# Altium integrated library Xilinx XC4000E.IntLib: 265 symbols (part 16 of 27)
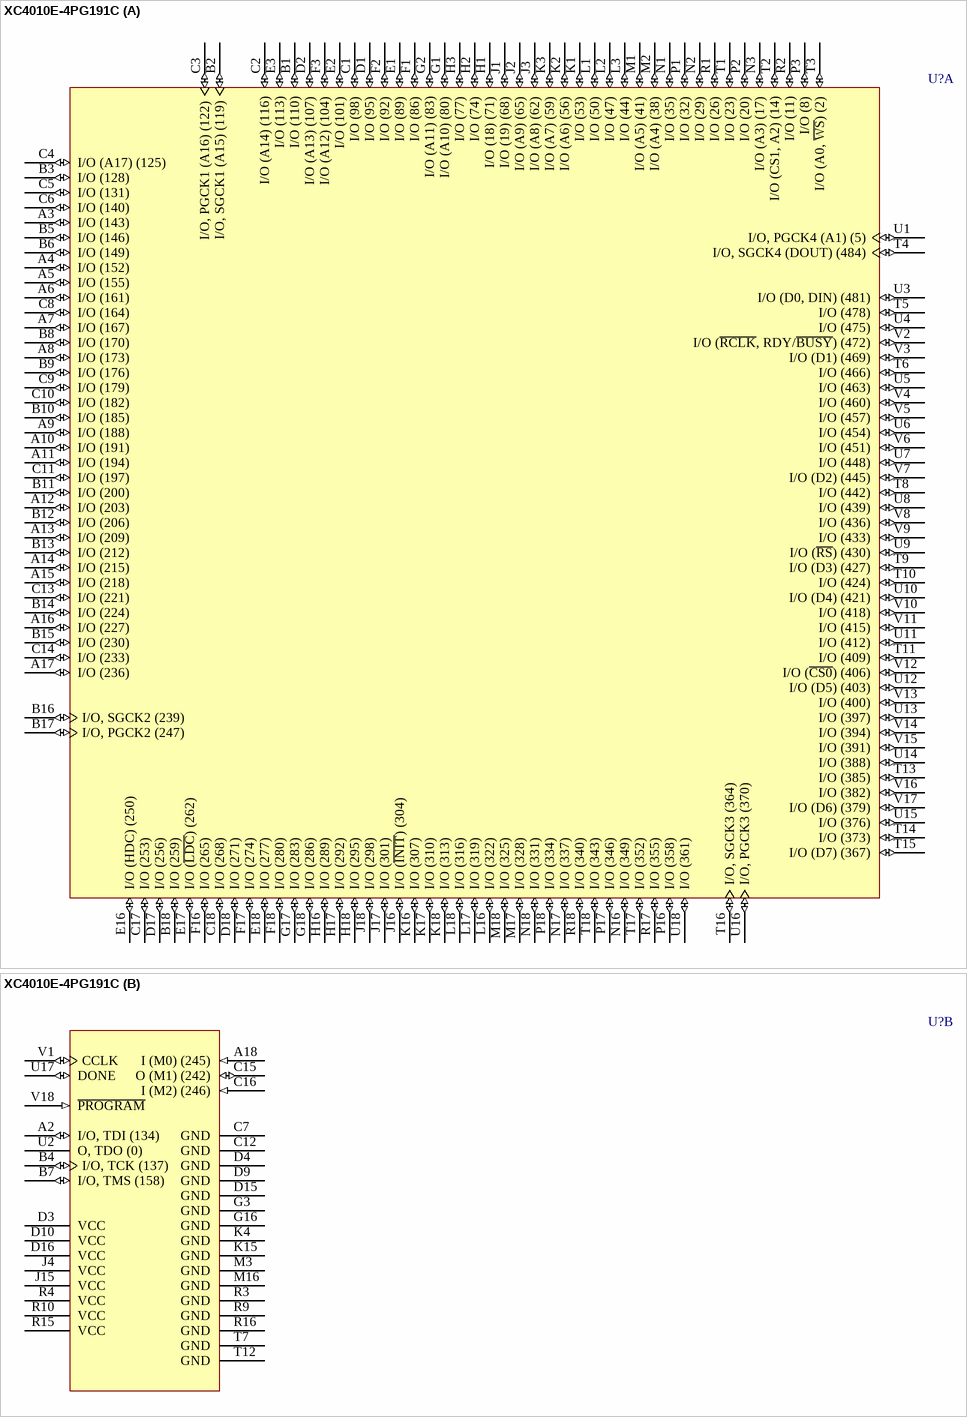
[diagram p287: symbol XC4010E-4PG191C]

## XC4010E-4PG191C
designator U?
XC4000E FPGA, 160 I/Os, 191-Pin PGA, Speed Grade 4, Commercial Grade; Published: 28-Feb-2003; LatestRevisionDate: 04-Mar-2005; LatestRevisionNote: Stylized 3D Model Added.; DatasheetVersion: ver1.6, May-1999; PackageVersion: ver1.1, Apr-2001; PackageReference: PG191; Publisher: Altium Limited; PackageDescription: 191-Pin Ceramic Pin Grid Array (PG191); Supplier 1: Digi-Key; Supplier Part Number 1: XC4010E-4PG191C-ND; ComponentLink1Description: XC4000E Datasheet; ComponentLink1URL: http://www.xilinx.com/support/documentation/data_sheets/4000.pdf; ComponentLink2Description: Discontinuation Notice; ComponentLink2URL: http://www.xilinx.com/support/documentation/customer_notices/pdn2002-03.pdf; ComponentLink3Description: PG191 Package Drawing; ComponentLink3URL: http://www.xilinx.com/support/documentation/package_specs/pg191.pdf; ComponentLink4Description: XC4000 Documents; ComponentLink4URL: http://www.xilinx.com/support/documentation/xc4000.htm; ComponentLink5Description: Xilinx.com Home; ComponentLink5URL: http://www.xilinx.com
footprint PG191 (PGA, 191-Leads, Body 47x47mm, Pitch 2.54mm)
part A pins: A3 I/O (143) (io), A4 I/O (152) (io), A5 I/O (155) (io), A6 I/O (161) (io), A7 I/O (167) (io), A8 I/O (173) (io), A9 I/O (188) (io), A10 I/O (191) (io), A11 I/O (194) (io), A12 I/O (203) (io), A13 I/O (209) (io), A14 I/O (215) (io), A15 I/O (218) (io), A16 I/O (227) (io), A17 I/O (236) (io), B1 I/O (110) (io), B2 I/O, SGCK1 (A15) (119) (io), B3 I/O (128) (io), B5 I/O (146) (io), B6 I/O (149) (io), B8 I/O (170) (io), B9 I/O (176) (io), B10 I/O (185) (io), B11 I/O (200) (io), B12 I/O (206) (io), B13 I/O (212) (io), B14 I/O (224) (io), B15 I/O (230) (io), B16 I/O, SGCK2 (239) (io), B17 I/O, PGCK2 (247) (io), B18 I/O (259) (io), C1 I/O (98) (io), C2 I/O (A14) (116) (io), C3 I/O, PGCK1 (A16) (122) (io), C4 I/O (A17) (125) (io), C5 I/O (131) (io), C6 I/O (140) (io), C8 I/O (164) (io), C9 I/O (179) (io), C10 I/O (182) (io), C11 I/O (197) (io), C13 I/O (221) (io), C14 I/O (233) (io), C17 I/O (253) (io), C18 I/O (268) (io), D1 I/O (95) (io), D2 I/O (A13) (107) (io), D17 I/O (256) (io), D18 I/O (271) (io), E1 I/O (89) (io), E2 I/O (101) (io), E3 I/O (113) (io), E16 I/O (HDC) (250) (io), E17 I/O (~{LDC}) (262) (io), E18 I/O (277) (io), F1 I/O (86) (io), F2 I/O (92) (io), F3 I/O (A12) (104) (io), F16 I/O (265) (io), F17 I/O (274) (io), F18 I/O (280) (io), G1 I/O (A10) (80) (io), G2 I/O (A11) (83) (io), G17 I/O (283) (io), G18 I/O (286) (io), H1 I/O (18) (71) (io), H2 I/O (74) (io), H3 I/O (77) (io), H16 I/O (289) (io), H17 I/O (292) (io), H18 I/O (295) (io), J1 I/O (19) (68) (io), J2 I/O (A9) (65) (io), J3 I/O (A8) (62) (io), J16 I/O (~{INIT}) (304) (io), J17 I/O (301) (io), J18 I/O (298) (io), K1 I/O (53) (io), K2 I/O (A6) (56) (io), K3 I/O (A7) (59) (io), K16 I/O (307) (io), K17 I/O (310) (io), K18 I/O (313) (io), L1 I/O (50) (io), L2 I/O (47) (io), L3 I/O (44) (io), L16 I/O (322) (io), L17 I/O (319) (io), L18 I/O (316) (io), M1 I/O (A5) (41) (io), M2 I/O (A4) (38) (io), M17 I/O (328) (io), M18 I/O (325) (io), N1 I/O (35) (io), N2 I/O (29) (io), N3 I/O (A3) (17) (io), N16 I/O (349) (io), N17 I/O (337) (io), N18 I/O (331) (io), P1 I/O (32) (io), P2 I/O (20) (io), P3 I/O (8) (io), P16 I/O (358) (io), P17 I/O (346) (io), P18 I/O (334) (io), R1 I/O (26) (io), R2 I/O (11) (io), R17 I/O (355) (io), R18 I/O (340) (io), T1 I/O (23) (io), T2 I/O (CS1, A2) (14) (io), T3 I/O (A0, ~{WS}) (2) (io), T4 I/O, SGCK4 (DOUT) (484) (io), T5 I/O (478) (io), T6 I/O (466) (io), T8 I/O (442) (io), T9 I/O (D3) (427) (io), T10 I/O (424) (io), T11 I/O (409) (io), T13 I/O (385) (io), T14 I/O (373) (io), T15 I/O (D7) (367) (io), T16 I/O, SGCK3 (364) (io), T17 I/O (352) (io), T18 I/O (343) (io), U1 I/O, PGCK4 (A1) (5) (io), U3 I/O (D0, DIN) (481) (io), U4 I/O (475) (io), U5 I/O (463) (io), U6 I/O (454) (io), U7 I/O (448) (io), U8 I/O (439) (io), U9 I/O (~{RS}) (430) (io), U10 I/O (D4) (421) (io), U11 I/O (412) (io), U12 I/O (D5) (403) (io), U13 I/O (397) (io), U14 I/O (388) (io), U15 I/O (376) (io), U16 I/O, PGCK3 (370) (io), U18 I/O (361) (io), V2 I/O (~{RCLK}, RDY/~{BUSY}) (472) (io), V3 I/O (D1) (469) (io), V4 I/O (460) (io), V5 I/O (457) (io), V6 I/O (451) (io), V7 I/O (D2) (445) (io), V8 I/O (436) (io), V9 I/O (433) (io), V10 I/O (418) (io), V11 I/O (415) (io), V12 I/O (~{CS0}) (406) (io), V13 I/O (400) (io), V14 I/O (394) (io), V15 I/O (391) (io), V16 I/O (382) (io), V17 I/O (D6) (379) (io)
part B pins: A2 I/O, TDI (134) (io), A18 I (M0) (245) (in), B4 I/O, TCK (137) (io), B7 I/O, TMS (158) (io), C7 GND (power), C12 GND (power), C15 O (M1) (242) (io), C16 I (M2) (246) (in), D3 VCC (power), D4 GND (power), D9 GND (power), D10 VCC (power), D15 GND (power), D16 VCC (power), G3 GND (power), G16 GND (power), J4 VCC (power), J15 VCC (power), K4 GND (power), K15 GND (power), M3 GND (power), M16 GND (power), R3 GND (power), R4 VCC (power), R9 GND (power), R10 VCC (power), R15 VCC (power), R16 GND (power), T7 GND (power), T12 GND (power), U2 O, TDO (0) (hiz), U17 DONE (io), V1 CCLK (io), V18 ~{PROGRAM} (in)

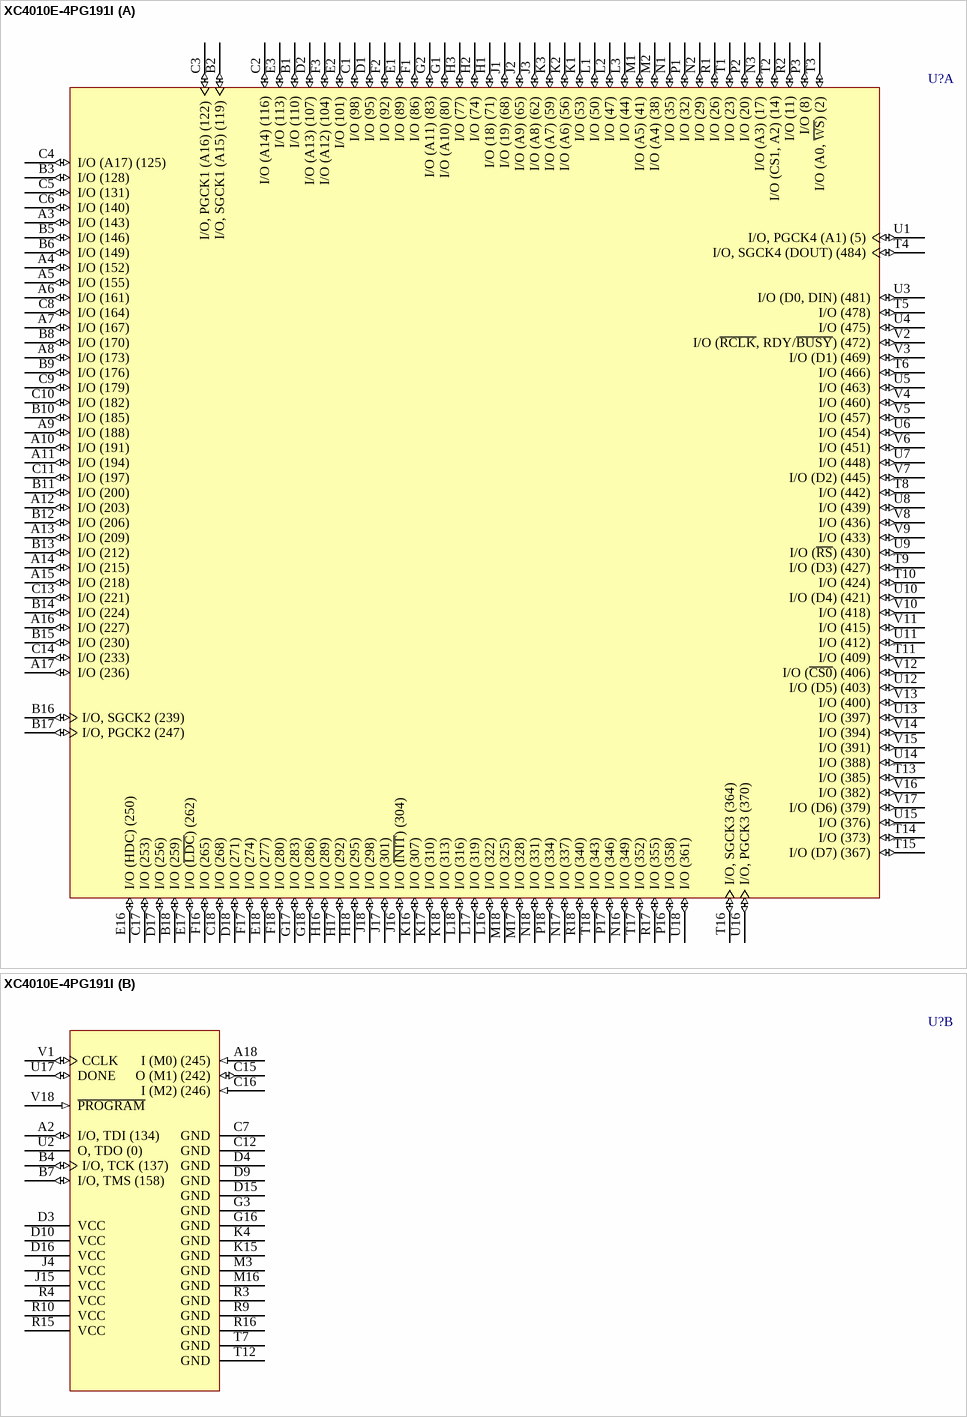
[diagram p145: symbol XC4010E-4PG191I]

## XC4010E-4PG191I
designator U?
XC4000E FPGA, 160 I/Os, 191-Pin PGA, Speed Grade 4, Industrial Grade; Published: 28-Feb-2003; LatestRevisionDate: 04-Mar-2005; LatestRevisionNote: Stylized 3D Model Added.; DatasheetVersion: ver1.6, May-1999; PackageVersion: ver1.1, Apr-2001; PackageReference: PG191; Publisher: Altium Limited; PackageDescription: 191-Pin Ceramic Pin Grid Array (PG191); Supplier 1: Digi-Key; Supplier Part Number 1: XC4010E-4PG191I-ND; ComponentLink1Description: XC4000E Datasheet; ComponentLink1URL: http://www.xilinx.com/support/documentation/data_sheets/4000.pdf; ComponentLink2Description: Discontinuation Notice; ComponentLink2URL: http://www.xilinx.com/support/documentation/customer_notices/pdn2002-03.pdf; ComponentLink3Description: PG191 Package Drawing; ComponentLink3URL: http://www.xilinx.com/support/documentation/package_specs/pg191.pdf; ComponentLink4Description: XC4000 Documents; ComponentLink4URL: http://www.xilinx.com/support/documentation/xc4000.htm; ComponentLink5Description: Xilinx.com Home; ComponentLink5URL: http://www.xilinx.com
footprint PG191 (PGA, 191-Leads, Body 47x47mm, Pitch 2.54mm)
part A pins: A3 I/O (143) (io), A4 I/O (152) (io), A5 I/O (155) (io), A6 I/O (161) (io), A7 I/O (167) (io), A8 I/O (173) (io), A9 I/O (188) (io), A10 I/O (191) (io), A11 I/O (194) (io), A12 I/O (203) (io), A13 I/O (209) (io), A14 I/O (215) (io), A15 I/O (218) (io), A16 I/O (227) (io), A17 I/O (236) (io), B1 I/O (110) (io), B2 I/O, SGCK1 (A15) (119) (io), B3 I/O (128) (io), B5 I/O (146) (io), B6 I/O (149) (io), B8 I/O (170) (io), B9 I/O (176) (io), B10 I/O (185) (io), B11 I/O (200) (io), B12 I/O (206) (io), B13 I/O (212) (io), B14 I/O (224) (io), B15 I/O (230) (io), B16 I/O, SGCK2 (239) (io), B17 I/O, PGCK2 (247) (io), B18 I/O (259) (io), C1 I/O (98) (io), C2 I/O (A14) (116) (io), C3 I/O, PGCK1 (A16) (122) (io), C4 I/O (A17) (125) (io), C5 I/O (131) (io), C6 I/O (140) (io), C8 I/O (164) (io), C9 I/O (179) (io), C10 I/O (182) (io), C11 I/O (197) (io), C13 I/O (221) (io), C14 I/O (233) (io), C17 I/O (253) (io), C18 I/O (268) (io), D1 I/O (95) (io), D2 I/O (A13) (107) (io), D17 I/O (256) (io), D18 I/O (271) (io), E1 I/O (89) (io), E2 I/O (101) (io), E3 I/O (113) (io), E16 I/O (HDC) (250) (io), E17 I/O (~{LDC}) (262) (io), E18 I/O (277) (io), F1 I/O (86) (io), F2 I/O (92) (io), F3 I/O (A12) (104) (io), F16 I/O (265) (io), F17 I/O (274) (io), F18 I/O (280) (io), G1 I/O (A10) (80) (io), G2 I/O (A11) (83) (io), G17 I/O (283) (io), G18 I/O (286) (io), H1 I/O (18) (71) (io), H2 I/O (74) (io), H3 I/O (77) (io), H16 I/O (289) (io), H17 I/O (292) (io), H18 I/O (295) (io), J1 I/O (19) (68) (io), J2 I/O (A9) (65) (io), J3 I/O (A8) (62) (io), J16 I/O (~{INIT}) (304) (io), J17 I/O (301) (io), J18 I/O (298) (io), K1 I/O (53) (io), K2 I/O (A6) (56) (io), K3 I/O (A7) (59) (io), K16 I/O (307) (io), K17 I/O (310) (io), K18 I/O (313) (io), L1 I/O (50) (io), L2 I/O (47) (io), L3 I/O (44) (io), L16 I/O (322) (io), L17 I/O (319) (io), L18 I/O (316) (io), M1 I/O (A5) (41) (io), M2 I/O (A4) (38) (io), M17 I/O (328) (io), M18 I/O (325) (io), N1 I/O (35) (io), N2 I/O (29) (io), N3 I/O (A3) (17) (io), N16 I/O (349) (io), N17 I/O (337) (io), N18 I/O (331) (io), P1 I/O (32) (io), P2 I/O (20) (io), P3 I/O (8) (io), P16 I/O (358) (io), P17 I/O (346) (io), P18 I/O (334) (io), R1 I/O (26) (io), R2 I/O (11) (io), R17 I/O (355) (io), R18 I/O (340) (io), T1 I/O (23) (io), T2 I/O (CS1, A2) (14) (io), T3 I/O (A0, ~{WS}) (2) (io), T4 I/O, SGCK4 (DOUT) (484) (io), T5 I/O (478) (io), T6 I/O (466) (io), T8 I/O (442) (io), T9 I/O (D3) (427) (io), T10 I/O (424) (io), T11 I/O (409) (io), T13 I/O (385) (io), T14 I/O (373) (io), T15 I/O (D7) (367) (io), T16 I/O, SGCK3 (364) (io), T17 I/O (352) (io), T18 I/O (343) (io), U1 I/O, PGCK4 (A1) (5) (io), U3 I/O (D0, DIN) (481) (io), U4 I/O (475) (io), U5 I/O (463) (io), U6 I/O (454) (io), U7 I/O (448) (io), U8 I/O (439) (io), U9 I/O (~{RS}) (430) (io), U10 I/O (D4) (421) (io), U11 I/O (412) (io), U12 I/O (D5) (403) (io), U13 I/O (397) (io), U14 I/O (388) (io), U15 I/O (376) (io), U16 I/O, PGCK3 (370) (io), U18 I/O (361) (io), V2 I/O (~{RCLK}, RDY/~{BUSY}) (472) (io), V3 I/O (D1) (469) (io), V4 I/O (460) (io), V5 I/O (457) (io), V6 I/O (451) (io), V7 I/O (D2) (445) (io), V8 I/O (436) (io), V9 I/O (433) (io), V10 I/O (418) (io), V11 I/O (415) (io), V12 I/O (~{CS0}) (406) (io), V13 I/O (400) (io), V14 I/O (394) (io), V15 I/O (391) (io), V16 I/O (382) (io), V17 I/O (D6) (379) (io)
part B pins: A2 I/O, TDI (134) (io), A18 I (M0) (245) (in), B4 I/O, TCK (137) (io), B7 I/O, TMS (158) (io), C7 GND (power), C12 GND (power), C15 O (M1) (242) (io), C16 I (M2) (246) (in), D3 VCC (power), D4 GND (power), D9 GND (power), D10 VCC (power), D15 GND (power), D16 VCC (power), G3 GND (power), G16 GND (power), J4 VCC (power), J15 VCC (power), K4 GND (power), K15 GND (power), M3 GND (power), M16 GND (power), R3 GND (power), R4 VCC (power), R9 GND (power), R10 VCC (power), R15 VCC (power), R16 GND (power), T7 GND (power), T12 GND (power), U2 O, TDO (0) (hiz), U17 DONE (io), V1 CCLK (io), V18 ~{PROGRAM} (in)

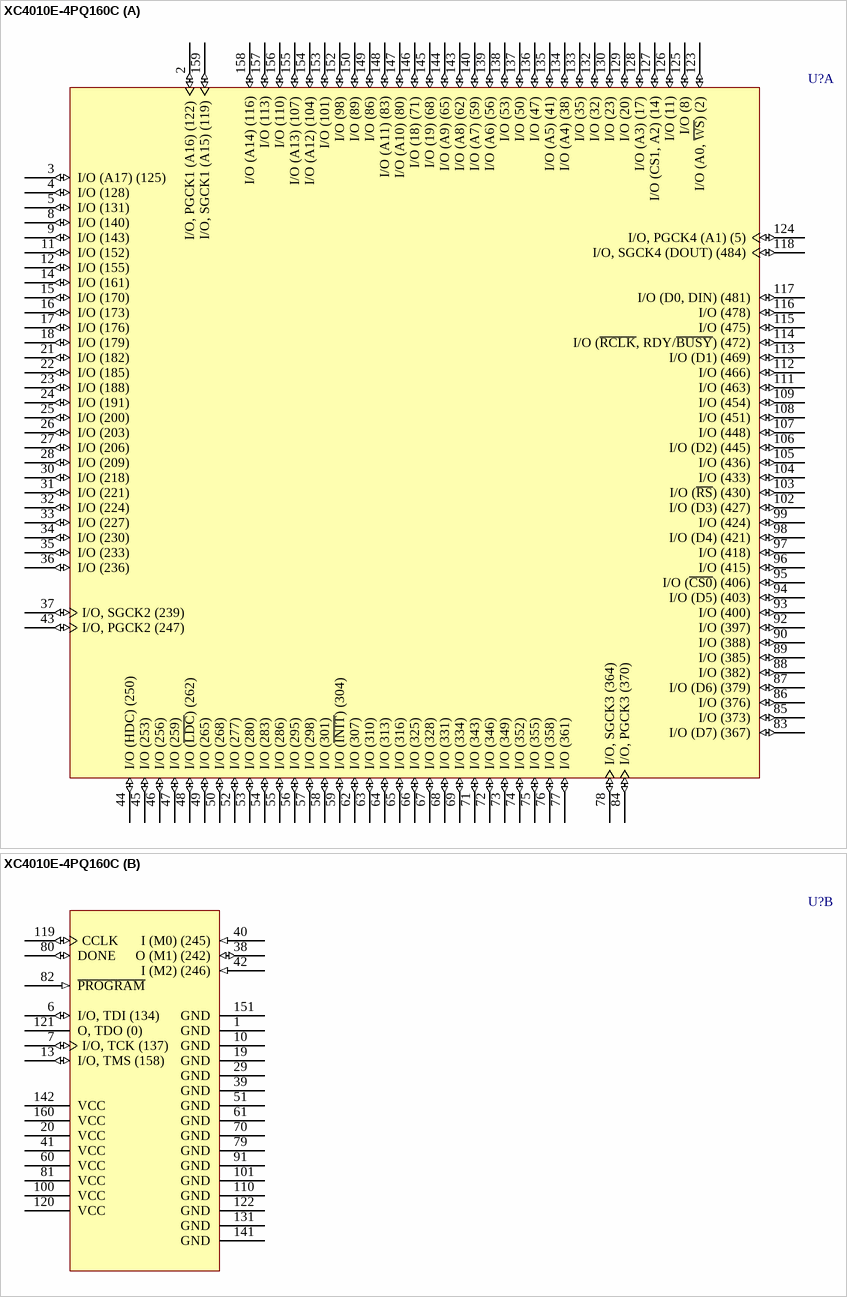
[diagram p146: symbol XC4010E-4PQ160C]

## XC4010E-4PQ160C
designator U?
XC4000E FPGA, 129 I/Os, 160-Pin PQFP, Speed Grade 4, Commercial Grade; Published: 28-Feb-2003; LatestRevisionDate: 13-Apr-2006; LatestRevisionNote: IPC-7351 Footprint Added.; DatasheetVersion: ver1.6, May-1999; PackageVersion: ver1.2, Jun-2004; PackageReference: PQ160; Publisher: Altium Limited; PackageDescription: 160-Pin Plastic Quad Flat Pack (PQ160); Supplier 1: Digi-Key; Supplier Part Number 1: 122-1104-ND; Code_JEDEC: MS-022-DD1; Code_IPC: QFP65P3120X3120-160; ComponentLink1Description: XC4000E Datasheet; ComponentLink1URL: http://www.xilinx.com/support/documentation/data_sheets/4000.pdf; ComponentLink2Description: PQ160 Package Drawing; ComponentLink2URL: http://www.xilinx.com/support/documentation/package_specs/pq160.pdf; ComponentLink3Description: XC4000 Documents; ComponentLink3URL: http://www.xilinx.com/support/documentation/xc4000.htm; ComponentLink4Description: Xilinx.com Home; ComponentLink4URL: http://www.xilinx.com
footprint PQ160_N (QFP, 160-Leads, Body 28x28mm, Pitch 0.65mm, IPC Medium Density)
footprint PQ160_L (QFP, 160-Leads, Body 28x28mm, Pitch 0.65mm, IPC High Density)
footprint PQ160_M (QFP, 160-Leads, Body 28x28mm, Pitch 0.65mm, IPC Low Density)
part A pins: 2 I/O, PGCK1 (A16) (122) (io), 3 I/O (A17) (125) (io), 4 I/O (128) (io), 5 I/O (131) (io), 8 I/O (140) (io), 9 I/O (143) (io), 11 I/O (152) (io), 12 I/O (155) (io), 14 I/O (161) (io), 15 I/O (170) (io), 16 I/O (173) (io), 17 I/O (176) (io), 18 I/O (179) (io), 21 I/O (182) (io), 22 I/O (185) (io), 23 I/O (188) (io), 24 I/O (191) (io), 25 I/O (200) (io), 26 I/O (203) (io), 27 I/O (206) (io), 28 I/O (209) (io), 30 I/O (218) (io), 31 I/O (221) (io), 32 I/O (224) (io), 33 I/O (227) (io), 34 I/O (230) (io), 35 I/O (233) (io), 36 I/O (236) (io), 37 I/O, SGCK2 (239) (io), 43 I/O, PGCK2 (247) (io), 44 I/O (HDC) (250) (io), 45 I/O (253) (io), 46 I/O (256) (io), 47 I/O (259) (io), 48 I/O (~{LDC}) (262) (io), 49 I/O (265) (io), 50 I/O (268) (io), 52 I/O (277) (io), 53 I/O (280) (io), 54 I/O (283) (io), 55 I/O (286) (io), 56 I/O (295) (io), 57 I/O (298) (io), 58 I/O (301) (io), 59 I/O (~{INIT}) (304) (io), 62 I/O (307) (io), 63 I/O (310) (io), 64 I/O (313) (io), 65 I/O (316) (io), 66 I/O (325) (io), 67 I/O (328) (io), 68 I/O (331) (io), 69 I/O (334) (io), 71 I/O (343) (io), 72 I/O (346) (io), 73 I/O (349) (io), 74 I/O (352) (io), 75 I/O (355) (io), 76 I/O (358) (io), 77 I/O (361) (io), 78 I/O, SGCK3 (364) (io), 83 I/O (D7) (367) (io), 84 I/O, PGCK3 (370) (io), 85 I/O (373) (io), 86 I/O (376) (io), 87 I/O (D6) (379) (io), 88 I/O (382) (io), 89 I/O (385) (io), 90 I/O (388) (io), 92 I/O (397) (io), 93 I/O (400) (io), 94 I/O (D5) (403) (io), 95 I/O (~{CS0}) (406) (io), 96 I/O (415) (io), 97 I/O (418) (io), 98 I/O (D4) (421) (io), 99 I/O (424) (io), 102 I/O (D3) (427) (io), 103 I/O (~{RS}) (430) (io), 104 I/O (433) (io), 105 I/O (436) (io), 106 I/O (D2) (445) (io), 107 I/O (448) (io), 108 I/O (451) (io), 109 I/O (454) (io), 111 I/O (463) (io), 112 I/O (466) (io), 113 I/O (D1) (469) (io), 114 I/O (~{RCLK}, RDY/~{BUSY}) (472) (io), 115 I/O (475) (io), 116 I/O (478) (io), 117 I/O (D0, DIN) (481) (io), 118 I/O, SGCK4 (DOUT) (484) (io), 123 I/O (A0, ~{WS}) (2) (io), 124 I/O, PGCK4 (A1) (5) (io), 125 I/O (8) (io), 126 I/O (11) (io), 127 I/O (CS1, A2) (14) (io), 128 I/O (A3) (17) (io), 129 I/O (20) (io), 130 I/O (23) (io), 132 I/O (32) (io), 133 I/O (35) (io), 134 I/O (A4) (38) (io), 135 I/O (A5) (41) (io), 136 I/O (47) (io), 137 I/O (50) (io), 138 I/O (53) (io), 139 I/O (A6) (56) (io), 140 I/O (A7) (59) (io), 143 I/O (A8) (62) (io), 144 I/O (A9) (65) (io), 145 I/O (19) (68) (io), 146 I/O (18) (71) (io), 147 I/O (A10) (80) (io), 148 I/O (A11) (83) (io), 149 I/O (86) (io), 150 I/O (89) (io), 152 I/O (98) (io), 153 I/O (101) (io), 154 I/O (A12) (104) (io), 155 I/O (A13) (107) (io), 156 I/O (110) (io), 157 I/O (113) (io), 158 I/O (A14) (116) (io), 159 I/O, SGCK1 (A15) (119) (io)
part B pins: 1 GND (power), 6 I/O, TDI (134) (io), 7 I/O, TCK (137) (io), 10 GND (power), 13 I/O, TMS (158) (io), 19 GND (power), 20 VCC (power), 29 GND (power), 38 O (M1) (242) (io), 39 GND (power), 40 I (M0) (245) (in), 41 VCC (power), 42 I (M2) (246) (in), 51 GND (power), 60 VCC (power), 61 GND (power), 70 GND (power), 79 GND (power), 80 DONE (io), 81 VCC (power), 82 ~{PROGRAM} (in), 91 GND (power), 100 VCC (power), 101 GND (power), 110 GND (power), 119 CCLK (io), 120 VCC (power), 121 O, TDO (0) (hiz), 122 GND (power), 131 GND (power), 141 GND (power), 142 VCC (power), 151 GND (power), 160 VCC (power)

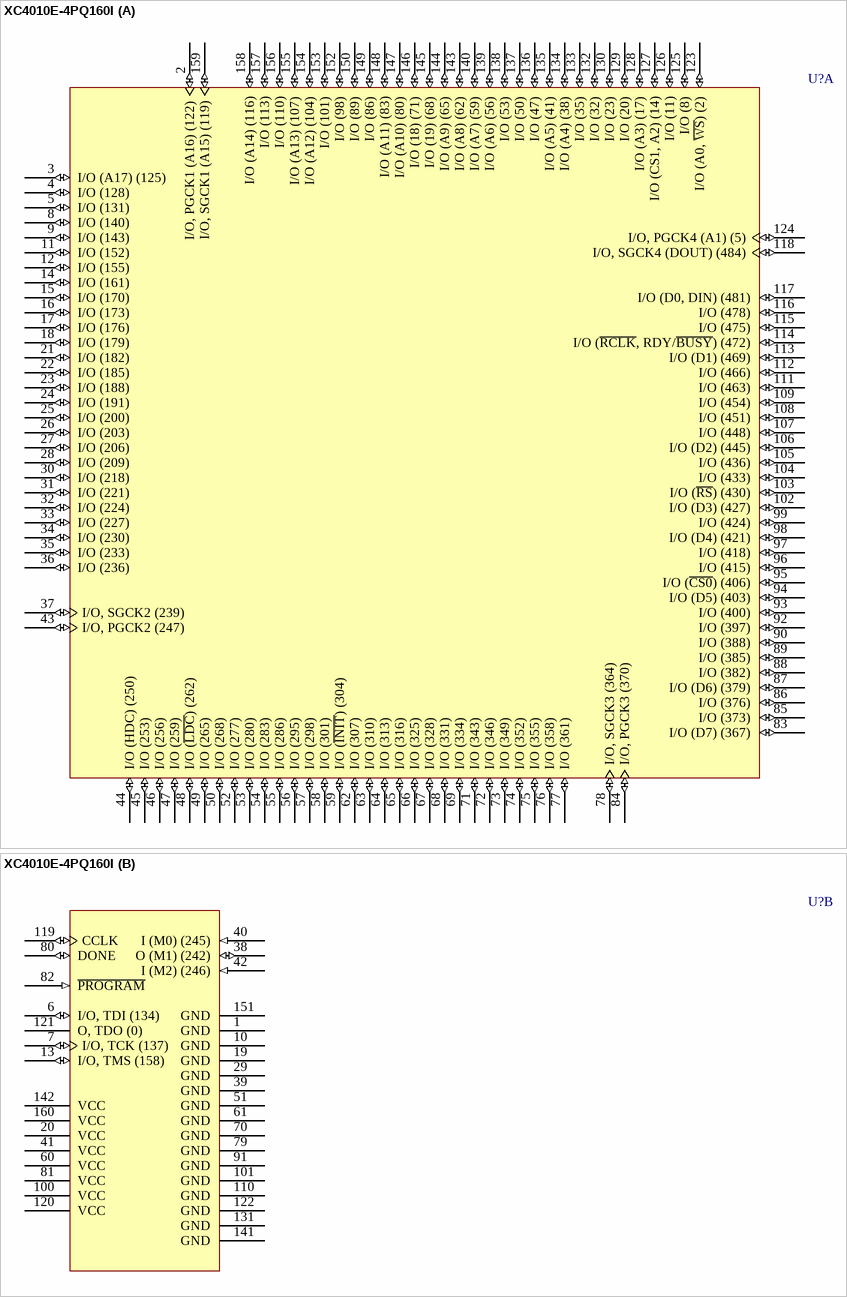
[diagram p147: symbol XC4010E-4PQ160I]

## XC4010E-4PQ160I
designator U?
XC4000E FPGA, 129 I/Os, 160-Pin PQFP, Speed Grade 4, Industrial Grade; Published: 28-Feb-2003; LatestRevisionDate: 13-Apr-2006; LatestRevisionNote: IPC-7351 Footprint Added.; DatasheetVersion: ver1.6, May-1999; PackageVersion: ver1.2, Jun-2004; PackageReference: PQ160; Publisher: Altium Limited; PackageDescription: 160-Pin Plastic Quad Flat Pack (PQ160); Supplier 1: Digi-Key; Supplier Part Number 1: XC4010E-4PQ160I-ND; Code_JEDEC: MS-022-DD1; Code_IPC: QFP65P3120X3120-160; ComponentLink1Description: XC4000E Datasheet; ComponentLink1URL: http://www.xilinx.com/support/documentation/data_sheets/4000.pdf; ComponentLink2Description: PQ160 Package Drawing; ComponentLink2URL: http://www.xilinx.com/support/documentation/package_specs/pq160.pdf; ComponentLink3Description: XC4000 Documents; ComponentLink3URL: http://www.xilinx.com/support/documentation/xc4000.htm; ComponentLink4Description: Xilinx.com Home; ComponentLink4URL: http://www.xilinx.com
footprint PQ160_N (QFP, 160-Leads, Body 28x28mm, Pitch 0.65mm, IPC Medium Density)
footprint PQ160_L (QFP, 160-Leads, Body 28x28mm, Pitch 0.65mm, IPC High Density)
footprint PQ160_M (QFP, 160-Leads, Body 28x28mm, Pitch 0.65mm, IPC Low Density)
part A pins: 2 I/O, PGCK1 (A16) (122) (io), 3 I/O (A17) (125) (io), 4 I/O (128) (io), 5 I/O (131) (io), 8 I/O (140) (io), 9 I/O (143) (io), 11 I/O (152) (io), 12 I/O (155) (io), 14 I/O (161) (io), 15 I/O (170) (io), 16 I/O (173) (io), 17 I/O (176) (io), 18 I/O (179) (io), 21 I/O (182) (io), 22 I/O (185) (io), 23 I/O (188) (io), 24 I/O (191) (io), 25 I/O (200) (io), 26 I/O (203) (io), 27 I/O (206) (io), 28 I/O (209) (io), 30 I/O (218) (io), 31 I/O (221) (io), 32 I/O (224) (io), 33 I/O (227) (io), 34 I/O (230) (io), 35 I/O (233) (io), 36 I/O (236) (io), 37 I/O, SGCK2 (239) (io), 43 I/O, PGCK2 (247) (io), 44 I/O (HDC) (250) (io), 45 I/O (253) (io), 46 I/O (256) (io), 47 I/O (259) (io), 48 I/O (~{LDC}) (262) (io), 49 I/O (265) (io), 50 I/O (268) (io), 52 I/O (277) (io), 53 I/O (280) (io), 54 I/O (283) (io), 55 I/O (286) (io), 56 I/O (295) (io), 57 I/O (298) (io), 58 I/O (301) (io), 59 I/O (~{INIT}) (304) (io), 62 I/O (307) (io), 63 I/O (310) (io), 64 I/O (313) (io), 65 I/O (316) (io), 66 I/O (325) (io), 67 I/O (328) (io), 68 I/O (331) (io), 69 I/O (334) (io), 71 I/O (343) (io), 72 I/O (346) (io), 73 I/O (349) (io), 74 I/O (352) (io), 75 I/O (355) (io), 76 I/O (358) (io), 77 I/O (361) (io), 78 I/O, SGCK3 (364) (io), 83 I/O (D7) (367) (io), 84 I/O, PGCK3 (370) (io), 85 I/O (373) (io), 86 I/O (376) (io), 87 I/O (D6) (379) (io), 88 I/O (382) (io), 89 I/O (385) (io), 90 I/O (388) (io), 92 I/O (397) (io), 93 I/O (400) (io), 94 I/O (D5) (403) (io), 95 I/O (~{CS0}) (406) (io), 96 I/O (415) (io), 97 I/O (418) (io), 98 I/O (D4) (421) (io), 99 I/O (424) (io), 102 I/O (D3) (427) (io), 103 I/O (~{RS}) (430) (io), 104 I/O (433) (io), 105 I/O (436) (io), 106 I/O (D2) (445) (io), 107 I/O (448) (io), 108 I/O (451) (io), 109 I/O (454) (io), 111 I/O (463) (io), 112 I/O (466) (io), 113 I/O (D1) (469) (io), 114 I/O (~{RCLK}, RDY/~{BUSY}) (472) (io), 115 I/O (475) (io), 116 I/O (478) (io), 117 I/O (D0, DIN) (481) (io), 118 I/O, SGCK4 (DOUT) (484) (io), 123 I/O (A0, ~{WS}) (2) (io), 124 I/O, PGCK4 (A1) (5) (io), 125 I/O (8) (io), 126 I/O (11) (io), 127 I/O (CS1, A2) (14) (io), 128 I/O (A3) (17) (io), 129 I/O (20) (io), 130 I/O (23) (io), 132 I/O (32) (io), 133 I/O (35) (io), 134 I/O (A4) (38) (io), 135 I/O (A5) (41) (io), 136 I/O (47) (io), 137 I/O (50) (io), 138 I/O (53) (io), 139 I/O (A6) (56) (io), 140 I/O (A7) (59) (io), 143 I/O (A8) (62) (io), 144 I/O (A9) (65) (io), 145 I/O (19) (68) (io), 146 I/O (18) (71) (io), 147 I/O (A10) (80) (io), 148 I/O (A11) (83) (io), 149 I/O (86) (io), 150 I/O (89) (io), 152 I/O (98) (io), 153 I/O (101) (io), 154 I/O (A12) (104) (io), 155 I/O (A13) (107) (io), 156 I/O (110) (io), 157 I/O (113) (io), 158 I/O (A14) (116) (io), 159 I/O, SGCK1 (A15) (119) (io)
part B pins: 1 GND (power), 6 I/O, TDI (134) (io), 7 I/O, TCK (137) (io), 10 GND (power), 13 I/O, TMS (158) (io), 19 GND (power), 20 VCC (power), 29 GND (power), 38 O (M1) (242) (io), 39 GND (power), 40 I (M0) (245) (in), 41 VCC (power), 42 I (M2) (246) (in), 51 GND (power), 60 VCC (power), 61 GND (power), 70 GND (power), 79 GND (power), 80 DONE (io), 81 VCC (power), 82 ~{PROGRAM} (in), 91 GND (power), 100 VCC (power), 101 GND (power), 110 GND (power), 119 CCLK (io), 120 VCC (power), 121 O, TDO (0) (hiz), 122 GND (power), 131 GND (power), 141 GND (power), 142 VCC (power), 151 GND (power), 160 VCC (power)

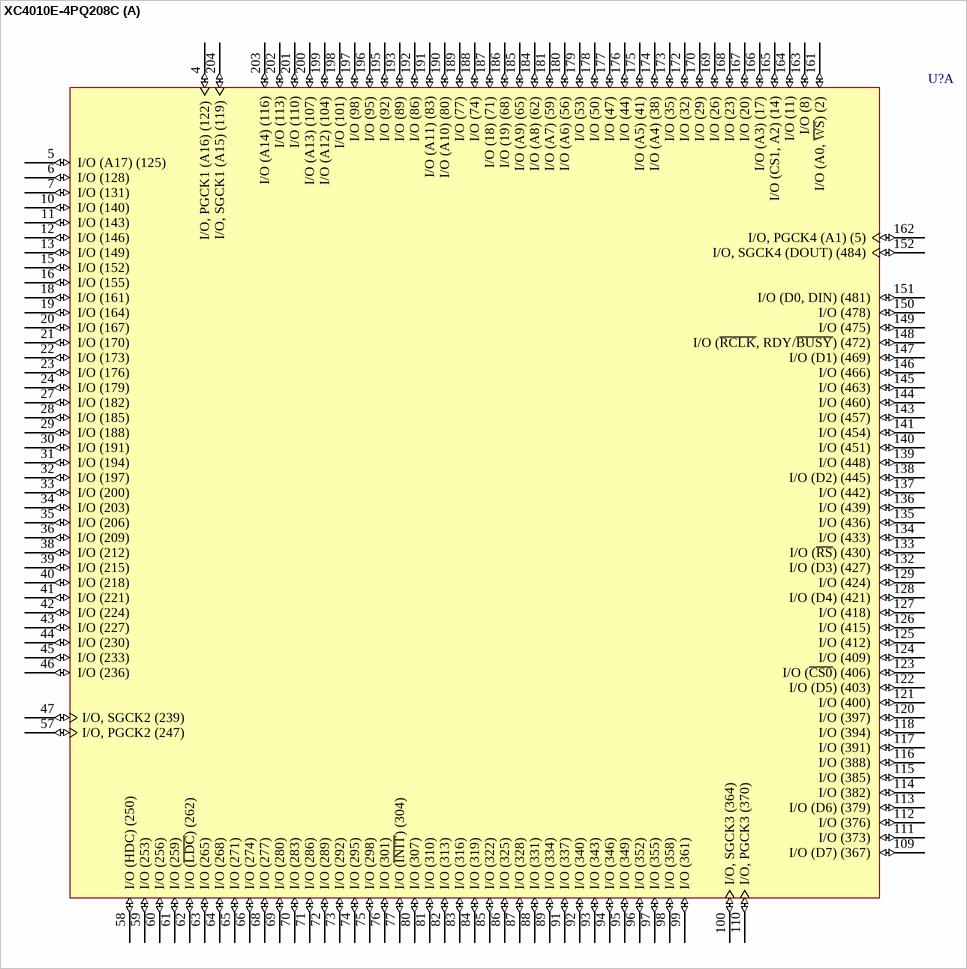
[diagram p148: symbol XC4010E-4PQ208C]

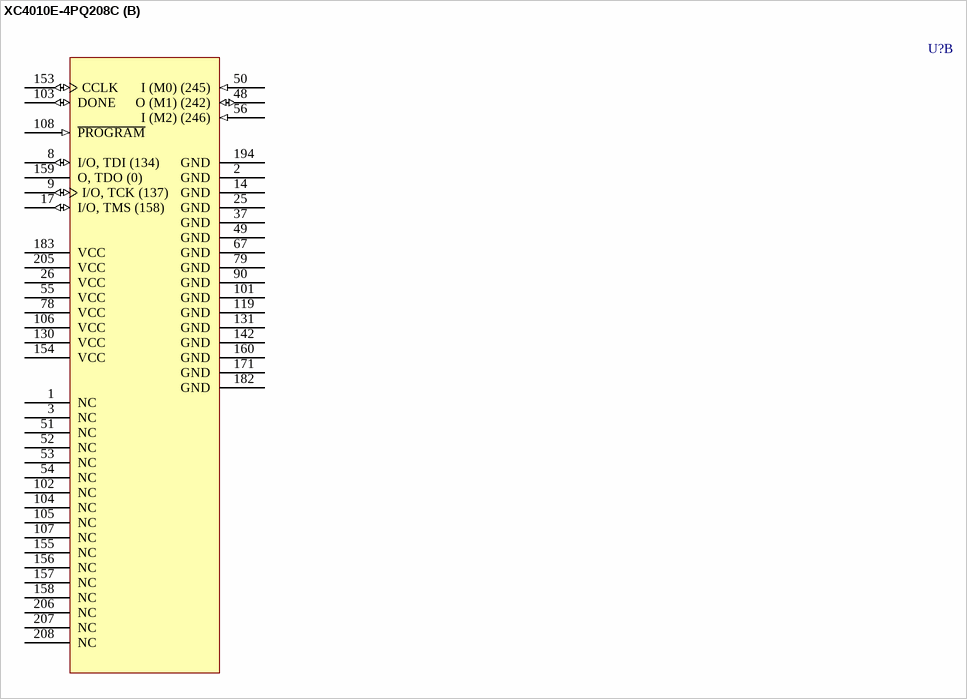
[diagram p149: symbol XC4010E-4PQ208C]

## XC4010E-4PQ208C
designator U?
XC4000E FPGA, 160 I/Os, 208-Pin PQFP, Speed Grade 4, Commercial Grade; Published: 28-Feb-2003; LatestRevisionDate: 13-Apr-2006; LatestRevisionNote: IPC-7351 Footprint Added.; DatasheetVersion: ver1.6, May-1999; PackageVersion: ver1.2, Jun-2004; PackageReference: PQ208; Publisher: Altium Limited; PackageDescription: 208-Pin Plastic Quad Flat Pack (PQ208); Supplier 1: Digi-Key; Supplier Part Number 1: 122-1107-ND; Code_JEDEC: MS-029-FA-1; ComponentLink1Description: XC4000E Datasheet; ComponentLink1URL: http://www.xilinx.com/support/documentation/data_sheets/4000.pdf; ComponentLink2Description: PQ208 Package Drawing; ComponentLink2URL: http://www.xilinx.com/support/documentation/package_specs/pq208.pdf; ComponentLink3Description: XC4000 Documents; ComponentLink3URL: http://www.xilinx.com/support/documentation/xc4000.htm; ComponentLink4Description: Xilinx.com Home; ComponentLink4URL: http://www.xilinx.com
footprint PQ208_N (Shrink QFP, 208-Leads, Body 28x28mm, Pitch 0.5mm, IPC Medium Density)
footprint PQ208_L (Shrink QFP, 208-Leads, Body 28x28mm, Pitch 0.5mm, IPC High Density)
footprint PQ208_M (Shrink QFP, 208-Leads, Body 28x28mm, Pitch 0.5mm, IPC Low Density)
part A pins: 4 I/O, PGCK1 (A16) (122) (io), 5 I/O (A17) (125) (io), 6 I/O (128) (io), 7 I/O (131) (io), 10 I/O (140) (io), 11 I/O (143) (io), 12 I/O (146) (io), 13 I/O (149) (io), 15 I/O (152) (io), 16 I/O (155) (io), 18 I/O (161) (io), 19 I/O (164) (io), 20 I/O (167) (io), 21 I/O (170) (io), 22 I/O (173) (io), 23 I/O (176) (io), 24 I/O (179) (io), 27 I/O (182) (io), 28 I/O (185) (io), 29 I/O (188) (io), 30 I/O (191) (io), 31 I/O (194) (io), 32 I/O (197) (io), 33 I/O (200) (io), 34 I/O (203) (io), 35 I/O (206) (io), 36 I/O (209) (io), 38 I/O (212) (io), 39 I/O (215) (io), 40 I/O (218) (io), 41 I/O (221) (io), 42 I/O (224) (io), 43 I/O (227) (io), 44 I/O (230) (io), 45 I/O (233) (io), 46 I/O (236) (io), 47 I/O, SGCK2 (239) (io), 57 I/O, PGCK2 (247) (io), 58 I/O (HDC) (250) (io), 59 I/O (253) (io), 60 I/O (256) (io), 61 I/O (259) (io), 62 I/O (~{LDC}) (262) (io), 63 I/O (265) (io), 64 I/O (268) (io), 65 I/O (271) (io), 66 I/O (274) (io), 68 I/O (277) (io), 69 I/O (280) (io), 70 I/O (283) (io), 71 I/O (286) (io), 72 I/O (289) (io), 73 I/O (292) (io), 74 I/O (295) (io), 75 I/O (298) (io), 76 I/O (301) (io), 77 I/O (~{INIT}) (304) (io), 80 I/O (307) (io), 81 I/O (310) (io), 82 I/O (313) (io), 83 I/O (316) (io), 84 I/O (319) (io), 85 I/O (322) (io), 86 I/O (325) (io), 87 I/O (328) (io), 88 I/O (331) (io), 89 I/O (334) (io), 91 I/O (337) (io), 92 I/O (340) (io), 93 I/O (343) (io), 94 I/O (346) (io), 95 I/O (349) (io), 96 I/O (352) (io), 97 I/O (355) (io), 98 I/O (358) (io), 99 I/O (361) (io), 100 I/O, SGCK3 (364) (io), 109 I/O (D7) (367) (io), 110 I/O, PGCK3 (370) (io), 111 I/O (373) (io), 112 I/O (376) (io), 113 I/O (D6) (379) (io), 114 I/O (382) (io), 115 I/O (385) (io), 116 I/O (388) (io), 117 I/O (391) (io), 118 I/O (394) (io), 120 I/O (397) (io), 121 I/O (400) (io), 122 I/O (D5) (403) (io), 123 I/O (~{CS0}) (406) (io), 124 I/O (409) (io), 125 I/O (412) (io), 126 I/O (415) (io), 127 I/O (418) (io), 128 I/O (D4) (421) (io), 129 I/O (424) (io), 132 I/O (D3) (427) (io), 133 I/O (~{RS}) (430) (io), 134 I/O (433) (io), 135 I/O (436) (io), 136 I/O (439) (io), 137 I/O (442) (io), 138 I/O (D2) (445) (io), 139 I/O (448) (io), 140 I/O (451) (io), 141 I/O (454) (io), 143 I/O (457) (io), 144 I/O (460) (io), 145 I/O (463) (io), 146 I/O (466) (io), 147 I/O (D1) (469) (io), 148 I/O (~{RCLK}, RDY/~{BUSY}) (472) (io), 149 I/O (475) (io), 150 I/O (478) (io), 151 I/O (D0, DIN) (481) (io), 152 I/O, SGCK4 (DOUT) (484) (io), 161 I/O (A0, ~{WS}) (2) (io), 162 I/O, PGCK4 (A1) (5) (io), 163 I/O (8) (io), 164 I/O (11) (io), 165 I/O (CS1, A2) (14) (io), 166 I/O (A3) (17) (io), 167 I/O (20) (io), 168 I/O (23) (io), 169 I/O (26) (io), 170 I/O (29) (io), 172 I/O (32) (io), 173 I/O (35) (io), 174 I/O (A4) (38) (io), 175 I/O (A5) (41) (io), 176 I/O (44) (io), 177 I/O (47) (io), 178 I/O (50) (io), 179 I/O (53) (io), 180 I/O (A6) (56) (io), 181 I/O (A7) (59) (io), 184 I/O (A8) (62) (io), 185 I/O (A9) (65) (io), 186 I/O (19) (68) (io), 187 I/O (18) (71) (io), 188 I/O (74) (io), 189 I/O (77) (io), 190 I/O (A10) (80) (io), 191 I/O (A11) (83) (io), 192 I/O (86) (io), 193 I/O (89) (io), 195 I/O (92) (io), 196 I/O (95) (io), 197 I/O (98) (io), 198 I/O (101) (io), 199 I/O (A12) (104) (io), 200 I/O (A13) (107) (io), 201 I/O (110) (io), 202 I/O (113) (io), 203 I/O (A14) (116) (io), 204 I/O, SGCK1 (A15) (119) (io)
part B pins: 1 NC, 2 GND (power), 3 NC, 8 I/O, TDI (134) (io), 9 I/O, TCK (137) (io), 14 GND (power), 17 I/O, TMS (158) (io), 25 GND (power), 26 VCC (power), 37 GND (power), 48 O (M1) (242) (io), 49 GND (power), 50 I (M0) (245) (in), 51 NC, 52 NC, 53 NC, 54 NC, 55 VCC (power), 56 I (M2) (246) (in), 67 GND (power), 78 VCC (power), 79 GND (power), 90 GND (power), 101 GND (power), 102 NC, 103 DONE (io), 104 NC, 105 NC, 106 VCC (power), 107 NC, 108 ~{PROGRAM} (in), 119 GND (power), 130 VCC (power), 131 GND (power), 142 GND (power), 153 CCLK (io), 154 VCC (power), 155 NC, 156 NC, 157 NC, 158 NC, 159 O, TDO (0) (hiz), 160 GND (power), 171 GND (power), 182 GND (power), 183 VCC (power), 194 GND (power), 205 VCC (power), 206 NC, 207 NC, 208 NC

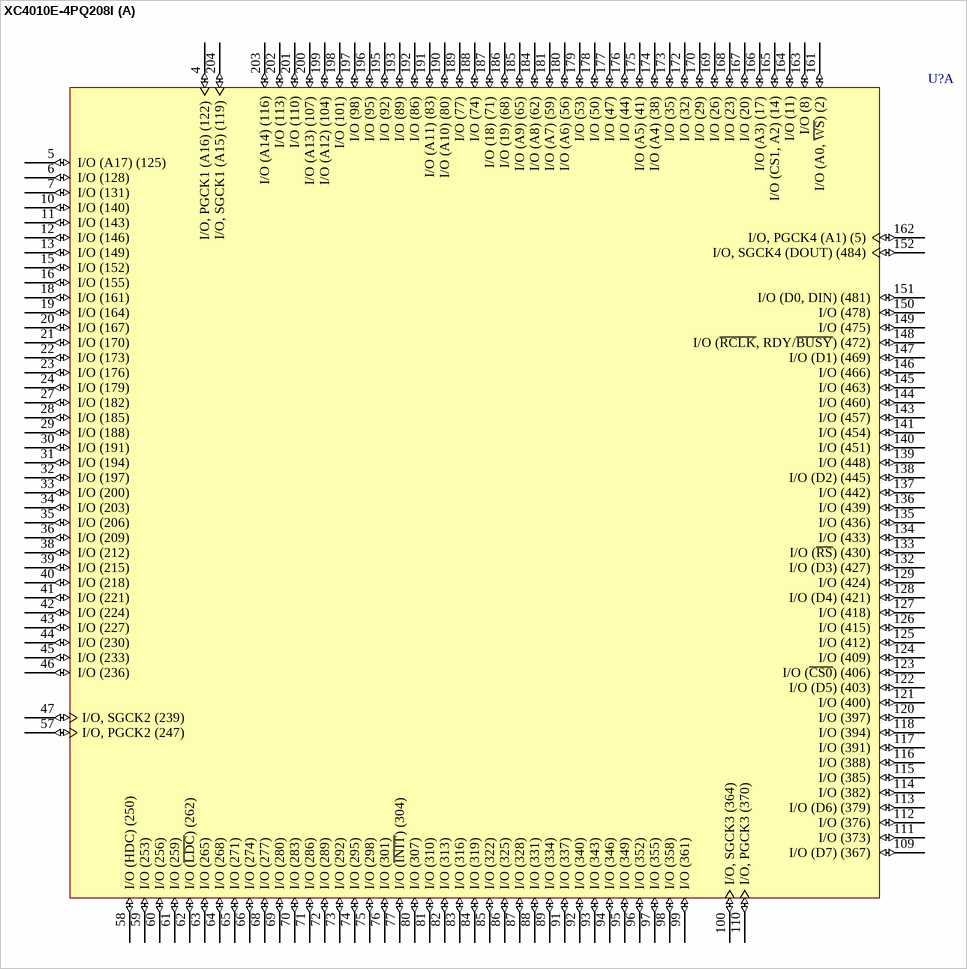
[diagram p150: symbol XC4010E-4PQ208I]

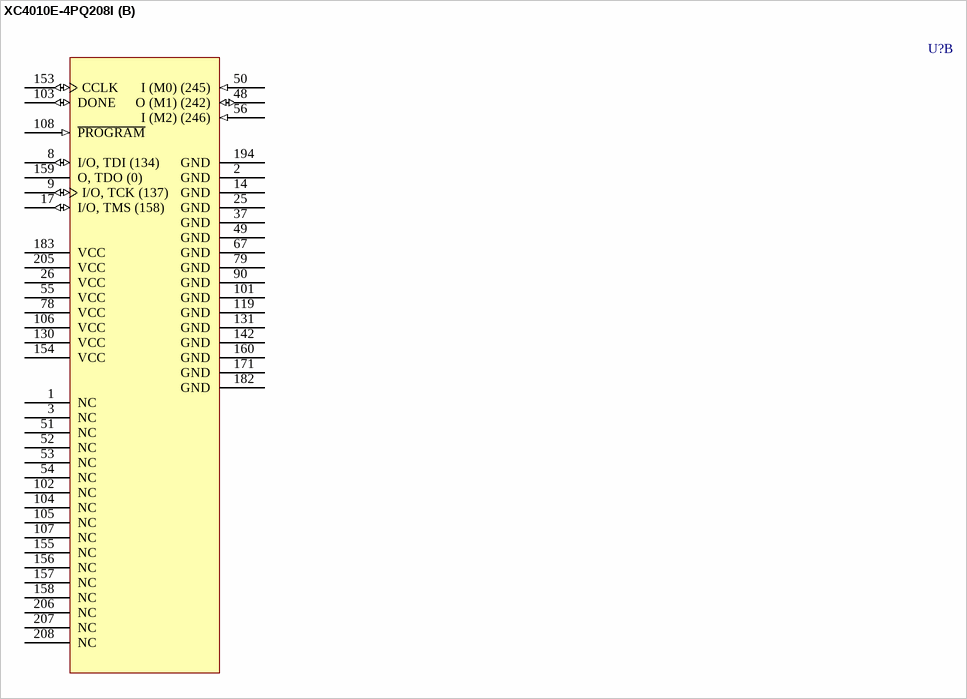
[diagram p151: symbol XC4010E-4PQ208I]

## XC4010E-4PQ208I
designator U?
XC4000E FPGA, 160 I/Os, 208-Pin PQFP, Speed Grade 4, Industrial Grade; Published: 28-Feb-2003; LatestRevisionDate: 13-Apr-2006; LatestRevisionNote: IPC-7351 Footprint Added.; DatasheetVersion: ver1.6, May-1999; PackageVersion: ver1.2, Jun-2004; PackageReference: PQ208; Publisher: Altium Limited; PackageDescription: 208-Pin Plastic Quad Flat Pack (PQ208); Supplier 1: Digi-Key; Supplier Part Number 1: XC4010E-4PQ208I-ND; Code_JEDEC: MS-029-FA-1; ComponentLink1Description: XC4000E Datasheet; ComponentLink1URL: http://www.xilinx.com/support/documentation/data_sheets/4000.pdf; ComponentLink2Description: PQ208 Package Drawing; ComponentLink2URL: http://www.xilinx.com/support/documentation/package_specs/pq208.pdf; ComponentLink3Description: XC4000 Documents; ComponentLink3URL: http://www.xilinx.com/support/documentation/xc4000.htm; ComponentLink4Description: Xilinx.com Home; ComponentLink4URL: http://www.xilinx.com
footprint PQ208_N (Shrink QFP, 208-Leads, Body 28x28mm, Pitch 0.5mm, IPC Medium Density)
footprint PQ208_L (Shrink QFP, 208-Leads, Body 28x28mm, Pitch 0.5mm, IPC High Density)
footprint PQ208_M (Shrink QFP, 208-Leads, Body 28x28mm, Pitch 0.5mm, IPC Low Density)
part A pins: 4 I/O, PGCK1 (A16) (122) (io), 5 I/O (A17) (125) (io), 6 I/O (128) (io), 7 I/O (131) (io), 10 I/O (140) (io), 11 I/O (143) (io), 12 I/O (146) (io), 13 I/O (149) (io), 15 I/O (152) (io), 16 I/O (155) (io), 18 I/O (161) (io), 19 I/O (164) (io), 20 I/O (167) (io), 21 I/O (170) (io), 22 I/O (173) (io), 23 I/O (176) (io), 24 I/O (179) (io), 27 I/O (182) (io), 28 I/O (185) (io), 29 I/O (188) (io), 30 I/O (191) (io), 31 I/O (194) (io), 32 I/O (197) (io), 33 I/O (200) (io), 34 I/O (203) (io), 35 I/O (206) (io), 36 I/O (209) (io), 38 I/O (212) (io), 39 I/O (215) (io), 40 I/O (218) (io), 41 I/O (221) (io), 42 I/O (224) (io), 43 I/O (227) (io), 44 I/O (230) (io), 45 I/O (233) (io), 46 I/O (236) (io), 47 I/O, SGCK2 (239) (io), 57 I/O, PGCK2 (247) (io), 58 I/O (HDC) (250) (io), 59 I/O (253) (io), 60 I/O (256) (io), 61 I/O (259) (io), 62 I/O (~{LDC}) (262) (io), 63 I/O (265) (io), 64 I/O (268) (io), 65 I/O (271) (io), 66 I/O (274) (io), 68 I/O (277) (io), 69 I/O (280) (io), 70 I/O (283) (io), 71 I/O (286) (io), 72 I/O (289) (io), 73 I/O (292) (io), 74 I/O (295) (io), 75 I/O (298) (io), 76 I/O (301) (io), 77 I/O (~{INIT}) (304) (io), 80 I/O (307) (io), 81 I/O (310) (io), 82 I/O (313) (io), 83 I/O (316) (io), 84 I/O (319) (io), 85 I/O (322) (io), 86 I/O (325) (io), 87 I/O (328) (io), 88 I/O (331) (io), 89 I/O (334) (io), 91 I/O (337) (io), 92 I/O (340) (io), 93 I/O (343) (io), 94 I/O (346) (io), 95 I/O (349) (io), 96 I/O (352) (io), 97 I/O (355) (io), 98 I/O (358) (io), 99 I/O (361) (io), 100 I/O, SGCK3 (364) (io), 109 I/O (D7) (367) (io), 110 I/O, PGCK3 (370) (io), 111 I/O (373) (io), 112 I/O (376) (io), 113 I/O (D6) (379) (io), 114 I/O (382) (io), 115 I/O (385) (io), 116 I/O (388) (io), 117 I/O (391) (io), 118 I/O (394) (io), 120 I/O (397) (io), 121 I/O (400) (io), 122 I/O (D5) (403) (io), 123 I/O (~{CS0}) (406) (io), 124 I/O (409) (io), 125 I/O (412) (io), 126 I/O (415) (io), 127 I/O (418) (io), 128 I/O (D4) (421) (io), 129 I/O (424) (io), 132 I/O (D3) (427) (io), 133 I/O (~{RS}) (430) (io), 134 I/O (433) (io), 135 I/O (436) (io), 136 I/O (439) (io), 137 I/O (442) (io), 138 I/O (D2) (445) (io), 139 I/O (448) (io), 140 I/O (451) (io), 141 I/O (454) (io), 143 I/O (457) (io), 144 I/O (460) (io), 145 I/O (463) (io), 146 I/O (466) (io), 147 I/O (D1) (469) (io), 148 I/O (~{RCLK}, RDY/~{BUSY}) (472) (io), 149 I/O (475) (io), 150 I/O (478) (io), 151 I/O (D0, DIN) (481) (io), 152 I/O, SGCK4 (DOUT) (484) (io), 161 I/O (A0, ~{WS}) (2) (io), 162 I/O, PGCK4 (A1) (5) (io), 163 I/O (8) (io), 164 I/O (11) (io), 165 I/O (CS1, A2) (14) (io), 166 I/O (A3) (17) (io), 167 I/O (20) (io), 168 I/O (23) (io), 169 I/O (26) (io), 170 I/O (29) (io), 172 I/O (32) (io), 173 I/O (35) (io), 174 I/O (A4) (38) (io), 175 I/O (A5) (41) (io), 176 I/O (44) (io), 177 I/O (47) (io), 178 I/O (50) (io), 179 I/O (53) (io), 180 I/O (A6) (56) (io), 181 I/O (A7) (59) (io), 184 I/O (A8) (62) (io), 185 I/O (A9) (65) (io), 186 I/O (19) (68) (io), 187 I/O (18) (71) (io), 188 I/O (74) (io), 189 I/O (77) (io), 190 I/O (A10) (80) (io), 191 I/O (A11) (83) (io), 192 I/O (86) (io), 193 I/O (89) (io), 195 I/O (92) (io), 196 I/O (95) (io), 197 I/O (98) (io), 198 I/O (101) (io), 199 I/O (A12) (104) (io), 200 I/O (A13) (107) (io), 201 I/O (110) (io), 202 I/O (113) (io), 203 I/O (A14) (116) (io), 204 I/O, SGCK1 (A15) (119) (io)
part B pins: 1 NC, 2 GND (power), 3 NC, 8 I/O, TDI (134) (io), 9 I/O, TCK (137) (io), 14 GND (power), 17 I/O, TMS (158) (io), 25 GND (power), 26 VCC (power), 37 GND (power), 48 O (M1) (242) (io), 49 GND (power), 50 I (M0) (245) (in), 51 NC, 52 NC, 53 NC, 54 NC, 55 VCC (power), 56 I (M2) (246) (in), 67 GND (power), 78 VCC (power), 79 GND (power), 90 GND (power), 101 GND (power), 102 NC, 103 DONE (io), 104 NC, 105 NC, 106 VCC (power), 107 NC, 108 ~{PROGRAM} (in), 119 GND (power), 130 VCC (power), 131 GND (power), 142 GND (power), 153 CCLK (io), 154 VCC (power), 155 NC, 156 NC, 157 NC, 158 NC, 159 O, TDO (0) (hiz), 160 GND (power), 171 GND (power), 182 GND (power), 183 VCC (power), 194 GND (power), 205 VCC (power), 206 NC, 207 NC, 208 NC

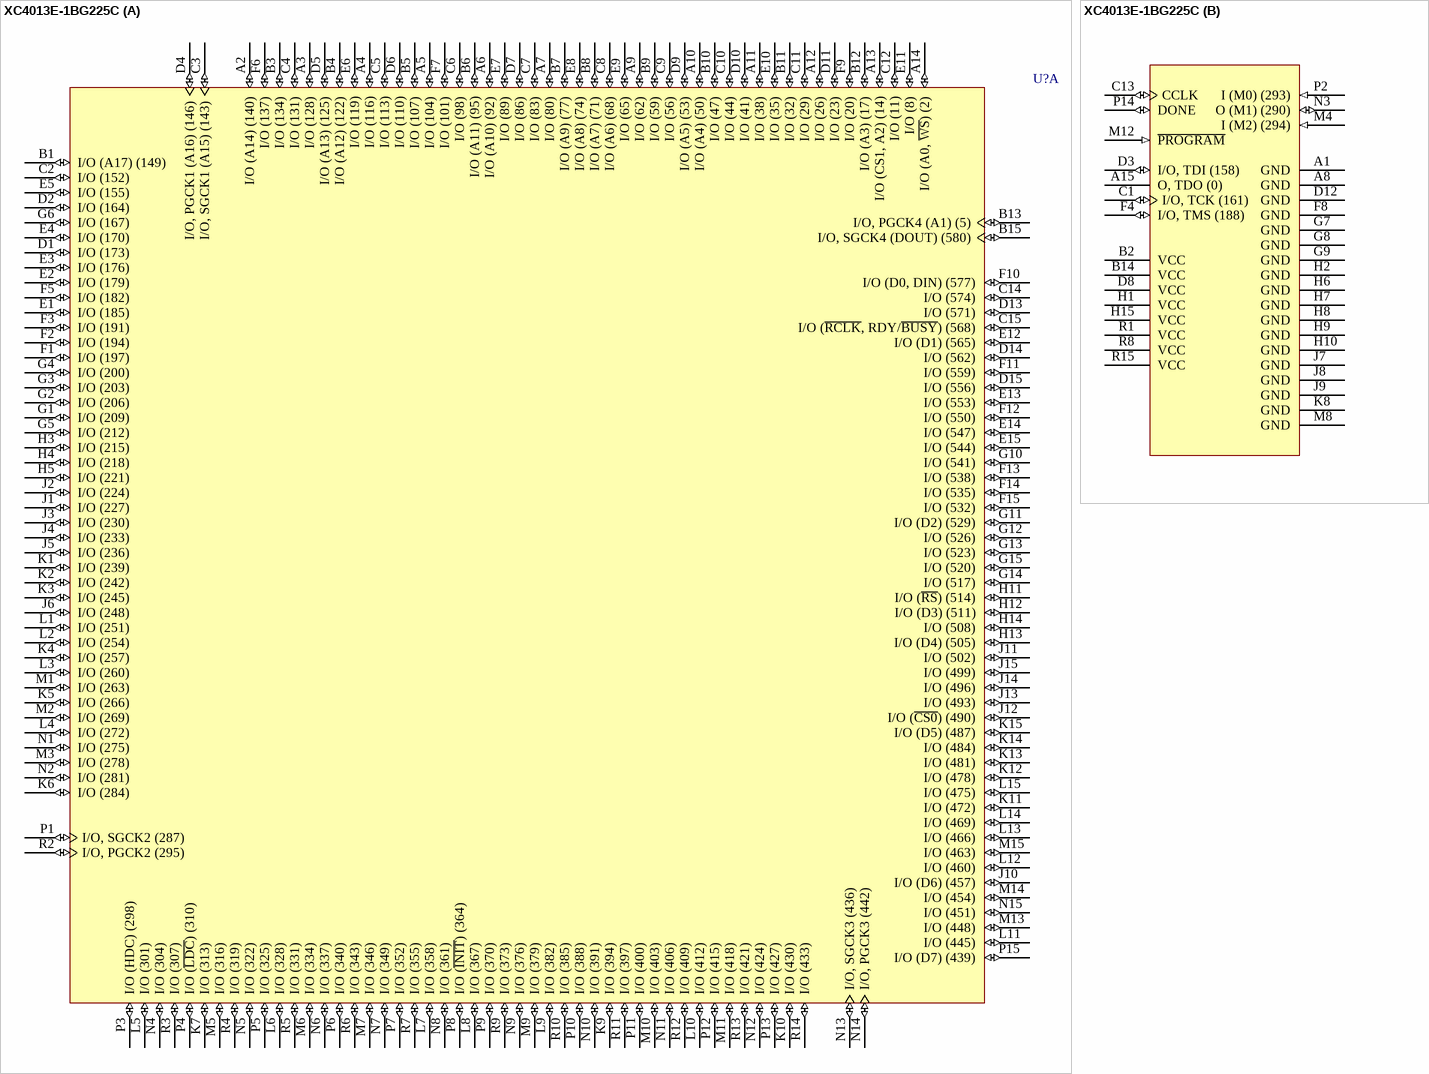
[diagram p152: symbol XC4013E-1BG225C]

## XC4013E-1BG225C
designator U?
XC4000E FPGA, 192 I/Os, 225-Ball BGA, Speed Grade 1, Commercial Grade; Published: 28-Feb-2003; LatestRevisionDate: 13-Apr-2006; LatestRevisionNote: IPC-7351 Footprint Added.; DatasheetVersion: ver1.6, May-1999; PackageVersion: ver1.1, Apr-2001; PackageReference: BG225; Publisher: Altium Limited; PackageDescription: 225-Ball Plastic Ball Grid Array (BG225); Supplier 1: Digi-Key; Supplier Part Number 1: XC4013E-1BG225C-ND; ComponentLink1Description: XC4000E Datasheet; ComponentLink1URL: http://www.xilinx.com/support/documentation/data_sheets/4000.pdf; ComponentLink2Description: BG225 Package Drawing; ComponentLink2URL: http://www.xilinx.com/support/documentation/package_specs/bg225.pdf; ComponentLink3Description: XC4000 Documents; ComponentLink3URL: http://www.xilinx.com/support/documentation/xc4000.htm; ComponentLink4Description: Xilinx.com Home; ComponentLink4URL: http://www.xilinx.com
footprint BG225 (BGA, 225-Leads, Body 27x27mm, Pitch 1.5mm)
part A pins: A2 I/O (A14) (140) (io), A3 I/O (128) (io), A4 I/O (116) (io), A5 I/O (104) (io), A6 I/O (A10) (92) (io), A7 I/O (80) (io), A9 I/O (62) (io), A10 I/O (A4) (50) (io), A11 I/O (38) (io), A12 I/O (26) (io), A13 I/O (CS1, A2) (14) (io), A14 I/O (A0, ~{WS}) (2) (io), B1 I/O (A17) (149) (io), B3 I/O (134) (io), B4 I/O (A12) (122) (io), B5 I/O (107) (io), B6 I/O (A11) (95) (io), B7 I/O (A9) (77) (io), B8 I/O (A7) (71) (io), B9 I/O (59) (io), B10 I/O (47) (io), B11 I/O (32) (io), B12 I/O (A3) (17) (io), B13 I/O, PGCK4 (A1) (5) (io), B15 I/O, SGCK4 (DOUT) (580) (io), C2 I/O (152) (io), C3 I/O, SGCK1 (A15) (143) (io), C4 I/O (131) (io), C5 I/O (113) (io), C6 I/O (98) (io), C7 I/O (83) (io), C8 I/O (A6) (68) (io), C9 I/O (56) (io), C10 I/O (44) (io), C11 I/O (29) (io), C12 I/O (11) (io), C14 I/O (574) (io), C15 I/O (~{RCLK}, RDY/~{BUSY}) (568) (io), D1 I/O (173) (io), D2 I/O (164) (io), D4 I/O, PGCK1 (A16) (146) (io), D5 I/O (A13) (125) (io), D6 I/O (110) (io), D7 I/O (86) (io), D9 I/O (A5) (53) (io), D10 I/O (41) (io), D11 I/O (23) (io), D13 I/O (571) (io), D14 I/O (562) (io), D15 I/O (556) (io), E1 I/O (185) (io), E2 I/O (179) (io), E3 I/O (176) (io), E4 I/O (170) (io), E5 I/O (155) (io), E6 I/O (119) (io), E7 I/O (89) (io), E8 I/O (A8) (74) (io), E9 I/O (65) (io), E10 I/O (35) (io), E11 I/O (8) (io), E12 I/O (D1) (565) (io), E13 I/O (553) (io), E14 I/O (547) (io), E15 I/O (544) (io), F1 I/O (197) (io), F2 I/O (194) (io), F3 I/O (191) (io), F5 I/O (182) (io), F6 I/O (137) (io), F7 I/O (101) (io), F9 I/O (20) (io), F10 I/O (D0, DIN) (577) (io), F11 I/O (559) (io), F12 I/O (550) (io), F13 I/O (538) (io), F14 I/O (535) (io), F15 I/O (532) (io), G1 I/O (209) (io), G2 I/O (206) (io), G3 I/O (203) (io), G4 I/O (200) (io), G5 I/O (212) (io), G6 I/O (167) (io), G10 I/O (541) (io), G11 I/O (D2) (529) (io), G12 I/O (526) (io), G13 I/O (523) (io), G14 I/O (517) (io), G15 I/O (520) (io), H3 I/O (215) (io), H4 I/O (218) (io), H5 I/O (221) (io), H11 I/O (~{RS}) (514) (io), H12 I/O (D3) (511) (io), H13 I/O (D4) (505) (io), H14 I/O (508) (io), J1 I/O (227) (io), J2 I/O (224) (io), J3 I/O (230) (io), J4 I/O (233) (io), J5 I/O (236) (io), J6 I/O (248) (io), J10 I/O (D6) (457) (io), J11 I/O (502) (io), J12 I/O (~{CS0}) (490) (io), J13 I/O (493) (io), J14 I/O (496) (io), J15 I/O (499) (io), K1 I/O (239) (io), K2 I/O (242) (io), K3 I/O (245) (io), K4 I/O (257) (io), K5 I/O (266) (io), K6 I/O (284) (io), K7 I/O (313) (io), K9 I/O (394) (io), K10 I/O (430) (io), K11 I/O (472) (io), K12 I/O (478) (io), K13 I/O (481) (io), K14 I/O (484) (io), K15 I/O (D5) (487) (io), L1 I/O (251) (io), L2 I/O (254) (io), L3 I/O (260) (io), L4 I/O (272) (io), L5 I/O (301) (io), L6 I/O (328) (io), L7 I/O (358) (io), L8 I/O (367) (io), L9 I/O (382) (io), L10 I/O (412) (io), L11 I/O (445) (io), L12 I/O (460) (io), L13 I/O (466) (io), L14 I/O (469) (io), L15 I/O (475) (io), M1 I/O (263) (io), M2 I/O (269) (io), M3 I/O (278) (io), M5 I/O (316) (io), M6 I/O (334) (io), M7 I/O (346) (io), M9 I/O (379) (io), M10 I/O (403) (io), M11 I/O (418) (io), M13 I/O (448) (io), M14 I/O (454) (io), M15 I/O (463) (io), N1 I/O (275) (io), N2 I/O (281) (io), N4 I/O (304) (io), N5 I/O (322) (io), N6 I/O (337) (io), N7 I/O (349) (io), N8 I/O (361) (io), N9 I/O (376) (io), N10 I/O (391) (io), N11 I/O (406) (io), N12 I/O (424) (io), N13 I/O, SGCK3 (436) (io), N14 I/O, PGCK3 (442) (io), N15 I/O (451) (io), P1 I/O, SGCK2 (287) (io), P3 I/O (HDC) (298) (io), P4 I/O (~{LDC}) (310) (io), P5 I/O (325) (io), P6 I/O (340) (io), P7 I/O (352) (io), P8 I/O (~{INIT}) (364) (io), P9 I/O (370) (io), P10 I/O (388) (io), P11 I/O (400) (io), P12 I/O (415) (io), P13 I/O (427) (io), P15 I/O (D7) (439) (io), R2 I/O, PGCK2 (295) (io), R3 I/O (307) (io), R4 I/O (319) (io), R5 I/O (331) (io), R6 I/O (343) (io), R7 I/O (355) (io), R9 I/O (373) (io), R10 I/O (385) (io), R11 I/O (397) (io), R12 I/O (409) (io), R13 I/O (421) (io), R14 I/O (433) (io)
part B pins: A1 GND (power), A8 GND (power), A15 O, TDO (0) (hiz), B2 VCC (power), B14 VCC (power), C1 I/O, TCK (161) (io), C13 CCLK (io), D3 I/O, TDI (158) (io), D8 VCC (power), D12 GND (power), F4 I/O, TMS (188) (io), F8 GND (power), G7 GND (power), G8 GND (power), G9 GND (power), H1 VCC (power), H2 GND (power), H6 GND (power), H7 GND (power), H8 GND (power), H9 GND (power), H10 GND (power), H15 VCC (power), J7 GND (power), J8 GND (power), J9 GND (power), K8 GND (power), M4 I (M2) (294) (in), M8 GND (power), M12 ~{PROGRAM} (in), N3 O (M1) (290) (io), P2 I (M0) (293) (in), P14 DONE (io), R1 VCC (power), R8 VCC (power), R15 VCC (power)

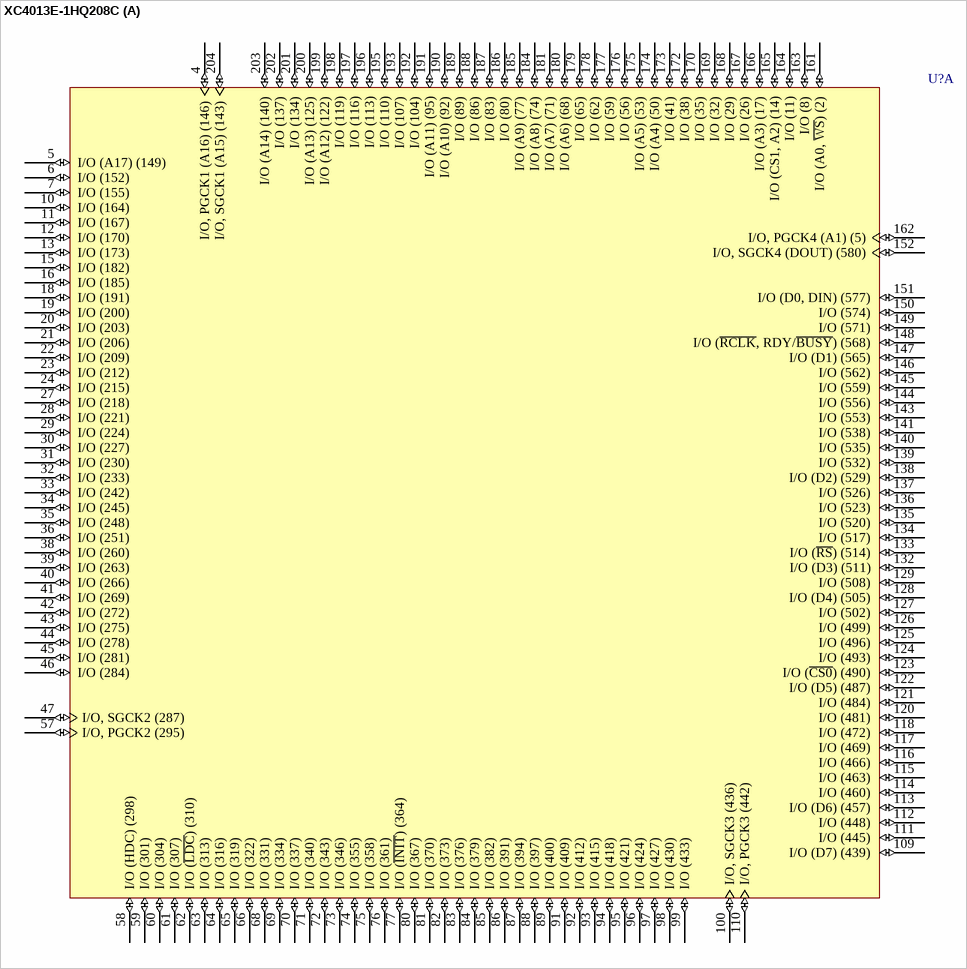
[diagram p153: symbol XC4013E-1HQ208C]

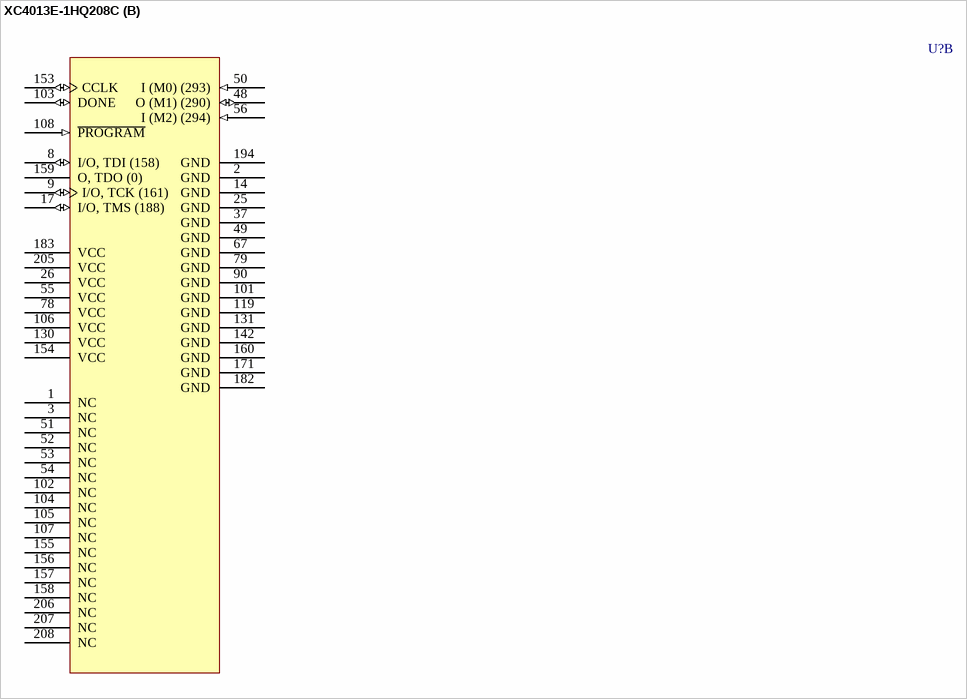
[diagram p154: symbol XC4013E-1HQ208C]

## XC4013E-1HQ208C
designator U?
XC4000E FPGA, 160 I/Os, 208-Pin HQFP, Speed Grade 1, Commercial Grade; Published: 28-Feb-2003; LatestRevisionDate: 13-Apr-2006; LatestRevisionNote: IPC-7351 Footprint Added.; DatasheetVersion: ver1.6, May-1999; PackageVersion: ver1.2, Jun-2004; PackageReference: HQ208; Publisher: Altium Limited; PackageDescription: 208-Pin Heat Sink Quad Flat Pack (HQ208); Supplier 1: Digi-Key; Supplier Part Number 1: XC4013E-1HQ208C-ND; Code_JEDEC: MS-029-FA-1; ComponentLink1Description: XC4000E Datasheet; ComponentLink1URL: http://www.xilinx.com/support/documentation/data_sheets/4000.pdf; ComponentLink2Description: Discontinuation Notice; ComponentLink2URL: http://www.xilinx.com/support/documentation/customer_notices/xcn09001.pdf; ComponentLink3Description: HQ208 Package Drawing; ComponentLink3URL: http://www.xilinx.com/support/documentation/package_specs/hq208.pdf; ComponentLink4Description: XC4000 Documents; ComponentLink4URL: http://www.xilinx.com/support/documentation/xc4000.htm; ComponentLink5Description: Xilinx.com Home; ComponentLink5URL: http://www.xilinx.com
footprint HQ208_N (Shrink QFP, 208-Leads, Body 28x28mm, Pitch 0.5mm, IPC Medium Density)
footprint HQ208_L (Shrink QFP, 208-Leads, Body 28x28mm, Pitch 0.5mm, IPC High Density)
footprint HQ208_M (Shrink QFP, 208-Leads, Body 28x28mm, Pitch 0.5mm, IPC Low Density)
part A pins: 4 I/O, PGCK1 (A16) (146) (io), 5 I/O (A17) (149) (io), 6 I/O (152) (io), 7 I/O (155) (io), 10 I/O (164) (io), 11 I/O (167) (io), 12 I/O (170) (io), 13 I/O (173) (io), 15 I/O (182) (io), 16 I/O (185) (io), 18 I/O (191) (io), 19 I/O (200) (io), 20 I/O (203) (io), 21 I/O (206) (io), 22 I/O (209) (io), 23 I/O (212) (io), 24 I/O (215) (io), 27 I/O (218) (io), 28 I/O (221) (io), 29 I/O (224) (io), 30 I/O (227) (io), 31 I/O (230) (io), 32 I/O (233) (io), 33 I/O (242) (io), 34 I/O (245) (io), 35 I/O (248) (io), 36 I/O (251) (io), 38 I/O (260) (io), 39 I/O (263) (io), 40 I/O (266) (io), 41 I/O (269) (io), 42 I/O (272) (io), 43 I/O (275) (io), 44 I/O (278) (io), 45 I/O (281) (io), 46 I/O (284) (io), 47 I/O, SGCK2 (287) (io), 57 I/O, PGCK2 (295) (io), 58 I/O (HDC) (298) (io), 59 I/O (301) (io), 60 I/O (304) (io), 61 I/O (307) (io), 62 I/O (~{LDC}) (310) (io), 63 I/O (313) (io), 64 I/O (316) (io), 65 I/O (319) (io), 66 I/O (322) (io), 68 I/O (331) (io), 69 I/O (334) (io), 70 I/O (337) (io), 71 I/O (340) (io), 72 I/O (343) (io), 73 I/O (346) (io), 74 I/O (355) (io), 75 I/O (358) (io), 76 I/O (361) (io), 77 I/O (~{INIT}) (364) (io), 80 I/O (367) (io), 81 I/O (370) (io), 82 I/O (373) (io), 83 I/O (376) (io), 84 I/O (379) (io), 85 I/O (382) (io), 86 I/O (391) (io), 87 I/O (394) (io), 88 I/O (397) (io), 89 I/O (400) (io), 91 I/O (409) (io), 92 I/O (412) (io), 93 I/O (415) (io), 94 I/O (418) (io), 95 I/O (421) (io), 96 I/O (424) (io), 97 I/O (427) (io), 98 I/O (430) (io), 99 I/O (433) (io), 100 I/O, SGCK3 (436) (io), 109 I/O (D7) (439) (io), 110 I/O, PGCK3 (442) (io), 111 I/O (445) (io), 112 I/O (448) (io), 113 I/O (D6) (457) (io), 114 I/O (460) (io), 115 I/O (463) (io), 116 I/O (466) (io), 117 I/O (469) (io), 118 I/O (472) (io), 120 I/O (481) (io), 121 I/O (484) (io), 122 I/O (D5) (487) (io), 123 I/O (~{CS0}) (490) (io), 124 I/O (493) (io), 125 I/O (496) (io), 126 I/O (499) (io), 127 I/O (502) (io), 128 I/O (D4) (505) (io), 129 I/O (508) (io), 132 I/O (D3) (511) (io), 133 I/O (~{RS}) (514) (io), 134 I/O (517) (io), 135 I/O (520) (io), 136 I/O (523) (io), 137 I/O (526) (io), 138 I/O (D2) (529) (io), 139 I/O (532) (io), 140 I/O (535) (io), 141 I/O (538) (io), 143 I/O (553) (io), 144 I/O (556) (io), 145 I/O (559) (io), 146 I/O (562) (io), 147 I/O (D1) (565) (io), 148 I/O (~{RCLK}, RDY/~{BUSY}) (568) (io), 149 I/O (571) (io), 150 I/O (574) (io), 151 I/O (D0, DIN) (577) (io), 152 I/O, SGCK4 (DOUT) (580) (io), 161 I/O (A0, ~{WS}) (2) (io), 162 I/O, PGCK4 (A1) (5) (io), 163 I/O (8) (io), 164 I/O (11) (io), 165 I/O (CS1, A2) (14) (io), 166 I/O (A3) (17) (io), 167 I/O (26) (io), 168 I/O (29) (io), 169 I/O (32) (io), 170 I/O (35) (io), 172 I/O (38) (io), 173 I/O (41) (io), 174 I/O (A4) (50) (io), 175 I/O (A5) (53) (io), 176 I/O (56) (io), 177 I/O (59) (io), 178 I/O (62) (io), 179 I/O (65) (io), 180 I/O (A6) (68) (io), 181 I/O (A7) (71) (io), 184 I/O (A8) (74) (io), 185 I/O (A9) (77) (io), 186 I/O (80) (io), 187 I/O (83) (io), 188 I/O (86) (io), 189 I/O (89) (io), 190 I/O (A10) (92) (io), 191 I/O (A11) (95) (io), 192 I/O (104) (io), 193 I/O (107) (io), 195 I/O (110) (io), 196 I/O (113) (io), 197 I/O (116) (io), 198 I/O (119) (io), 199 I/O (A12) (122) (io), 200 I/O (A13) (125) (io), 201 I/O (134) (io), 202 I/O (137) (io), 203 I/O (A14) (140) (io), 204 I/O, SGCK1 (A15) (143) (io)
part B pins: 1 NC, 2 GND (power), 3 NC, 8 I/O, TDI (158) (io), 9 I/O, TCK (161) (io), 14 GND (power), 17 I/O, TMS (188) (io), 25 GND (power), 26 VCC (power), 37 GND (power), 48 O (M1) (290) (io), 49 GND (power), 50 I (M0) (293) (in), 51 NC, 52 NC, 53 NC, 54 NC, 55 VCC (power), 56 I (M2) (294) (in), 67 GND (power), 78 VCC (power), 79 GND (power), 90 GND (power), 101 GND (power), 102 NC, 103 DONE (io), 104 NC, 105 NC, 106 VCC (power), 107 NC, 108 ~{PROGRAM} (in), 119 GND (power), 130 VCC (power), 131 GND (power), 142 GND (power), 153 CCLK (io), 154 VCC (power), 155 NC, 156 NC, 157 NC, 158 NC, 159 O, TDO (0) (hiz), 160 GND (power), 171 GND (power), 182 GND (power), 183 VCC (power), 194 GND (power), 205 VCC (power), 206 NC, 207 NC, 208 NC

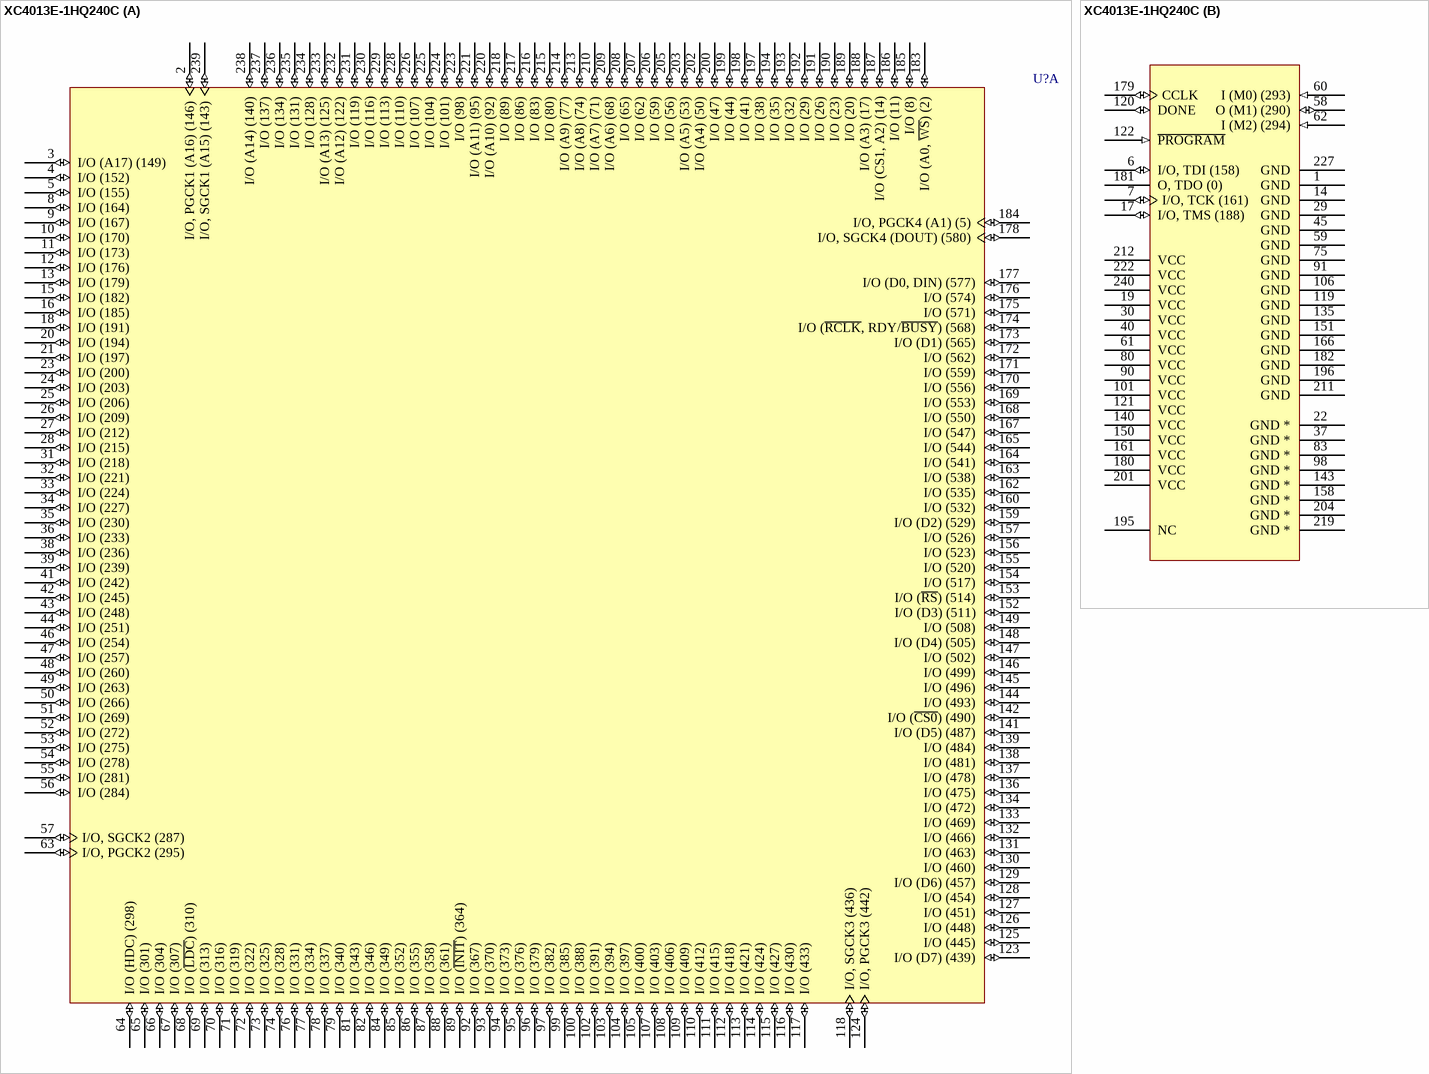
[diagram p155: symbol XC4013E-1HQ240C]

## XC4013E-1HQ240C
designator U?
XC4000E FPGA, 192 I/Os, 240-Pin HQFP, Speed Grade 1, Commercial Grade; Published: 28-Feb-2003; LatestRevisionDate: 13-Apr-2006; LatestRevisionNote: IPC-7351 Footprint Added.; DatasheetVersion: ver1.6, May-1999; PackageVersion: ver1.2, Jun-2004; PackageReference: HQ240; Publisher: Altium Limited; PackageDescription: 240-Pin Heat Sink Quad Flat Pack (HQ240); Supplier 1: Digi-Key; Supplier Part Number 1: XC4013E-1HQ240C-ND; Code_JEDEC: MO-143-GA; ComponentLink1Description: XC4000E Datasheet; ComponentLink1URL: http://www.xilinx.com/support/documentation/data_sheets/4000.pdf; ComponentLink2Description: Discontinuation Notice; ComponentLink2URL: http://www.xilinx.com/support/documentation/customer_notices/xcn09001.pdf; ComponentLink3Description: HQ240 Package Drawing; ComponentLink3URL: http://www.xilinx.com/support/documentation/package_specs/hq240.pdf; ComponentLink4Description: XC4000 Documents; ComponentLink4URL: http://www.xilinx.com/support/documentation/xc4000.htm; ComponentLink5Description: Xilinx.com Home; ComponentLink5URL: http://www.xilinx.com
footprint HQ240_N (Shrink QFP, 240-Leads, Body 32x32mm, Pitch 0.5mm, IPC Medium Density)
footprint HQ240_L (Shrink QFP, 240-Leads, Body 32x32mm, Pitch 0.5mm, IPC High Density)
footprint HQ240_M (Shrink QFP, 240-Leads, Body 32x32mm, Pitch 0.5mm, IPC Low Density)
part A pins: 2 I/O, PGCK1 (A16) (146) (io), 3 I/O (A17) (149) (io), 4 I/O (152) (io), 5 I/O (155) (io), 8 I/O (164) (io), 9 I/O (167) (io), 10 I/O (170) (io), 11 I/O (173) (io), 12 I/O (176) (io), 13 I/O (179) (io), 15 I/O (182) (io), 16 I/O (185) (io), 18 I/O (191) (io), 20 I/O (194) (io), 21 I/O (197) (io), 23 I/O (200) (io), 24 I/O (203) (io), 25 I/O (206) (io), 26 I/O (209) (io), 27 I/O (212) (io), 28 I/O (215) (io), 31 I/O (218) (io), 32 I/O (221) (io), 33 I/O (224) (io), 34 I/O (227) (io), 35 I/O (230) (io), 36 I/O (233) (io), 38 I/O (236) (io), 39 I/O (239) (io), 41 I/O (242) (io), 42 I/O (245) (io), 43 I/O (248) (io), 44 I/O (251) (io), 46 I/O (254) (io), 47 I/O (257) (io), 48 I/O (260) (io), 49 I/O (263) (io), 50 I/O (266) (io), 51 I/O (269) (io), 52 I/O (272) (io), 53 I/O (275) (io), 54 I/O (278) (io), 55 I/O (281) (io), 56 I/O (284) (io), 57 I/O, SGCK2 (287) (io), 63 I/O, PGCK2 (295) (io), 64 I/O (HDC) (298) (io), 65 I/O (301) (io), 66 I/O (304) (io), 67 I/O (307) (io), 68 I/O (~{LDC}) (310) (io), 69 I/O (313) (io), 70 I/O (316) (io), 71 I/O (319) (io), 72 I/O (322) (io), 73 I/O (325) (io), 74 I/O (328) (io), 76 I/O (331) (io), 77 I/O (334) (io), 78 I/O (337) (io), 79 I/O (340) (io), 81 I/O (343) (io), 82 I/O (346) (io), 84 I/O (349) (io), 85 I/O (352) (io), 86 I/O (355) (io), 87 I/O (358) (io), 88 I/O (361) (io), 89 I/O (~{INIT}) (364) (io), 92 I/O (367) (io), 93 I/O (370) (io), 94 I/O (373) (io), 95 I/O (376) (io), 96 I/O (379) (io), 97 I/O (382) (io), 99 I/O (385) (io), 100 I/O (388) (io), 102 I/O (391) (io), 103 I/O (394) (io), 104 I/O (397) (io), 105 I/O (400) (io), 107 I/O (403) (io), 108 I/O (406) (io), 109 I/O (409) (io), 110 I/O (412) (io), 111 I/O (415) (io), 112 I/O (418) (io), 113 I/O (421) (io), 114 I/O (424) (io), 115 I/O (427) (io), 116 I/O (430) (io), 117 I/O (433) (io), 118 I/O, SGCK3 (436) (io), 123 I/O (D7) (439) (io), 124 I/O, PGCK3 (442) (io), 125 I/O (445) (io), 126 I/O (448) (io), 127 I/O (451) (io), 128 I/O (454) (io), 129 I/O (D6) (457) (io), 130 I/O (460) (io), 131 I/O (463) (io), 132 I/O (466) (io), 133 I/O (469) (io), 134 I/O (472) (io), 136 I/O (475) (io), 137 I/O (478) (io), 138 I/O (481) (io), 139 I/O (484) (io), 141 I/O (D5) (487) (io), 142 I/O (~{CS0}) (490) (io), 144 I/O (493) (io), 145 I/O (496) (io), 146 I/O (499) (io), 147 I/O (502) (io), 148 I/O (D4) (505) (io), 149 I/O (508) (io), 152 I/O (D3) (511) (io), 153 I/O (~{RS}) (514) (io), 154 I/O (517) (io), 155 I/O (520) (io), 156 I/O (523) (io), 157 I/O (526) (io), 159 I/O (D2) (529) (io), 160 I/O (532) (io), 162 I/O (535) (io), 163 I/O (538) (io), 164 I/O (541) (io), 165 I/O (544) (io), 167 I/O (547) (io), 168 I/O (550) (io), 169 I/O (553) (io), 170 I/O (556) (io), 171 I/O (559) (io), 172 I/O (562) (io), 173 I/O (D1) (565) (io), 174 I/O (~{RCLK}, RDY/~{BUSY}) (568) (io), 175 I/O (571) (io), 176 I/O (574) (io), 177 I/O (D0, DIN) (577) (io), 178 I/O, SGCK4 (DOUT) (580) (io), 183 I/O (A0, ~{WS}) (2) (io), 184 I/O, PGCK4 (A1) (5) (io), 185 I/O (8) (io), 186 I/O (11) (io), 187 I/O (CS1, A2) (14) (io), 188 I/O (A3) (17) (io), 189 I/O (20) (io), 190 I/O (23) (io), 191 I/O (26) (io), 192 I/O (29) (io), 193 I/O (32) (io), 194 I/O (35) (io), 197 I/O (38) (io), 198 I/O (41) (io), 199 I/O (44) (io), 200 I/O (47) (io), 202 I/O (A4) (50) (io), 203 I/O (A5) (53) (io), 205 I/O (56) (io), 206 I/O (59) (io), 207 I/O (62) (io), 208 I/O (65) (io), 209 I/O (A6) (68) (io), 210 I/O (A7) (71) (io), 213 I/O (A8) (74) (io), 214 I/O (A9) (77) (io), 215 I/O (80) (io), 216 I/O (83) (io), 217 I/O (86) (io), 218 I/O (89) (io), 220 I/O (A10) (92) (io), 221 I/O (A11) (95) (io), 223 I/O (98) (io), 224 I/O (101) (io), 225 I/O (104) (io), 226 I/O (107) (io), 228 I/O (110) (io), 229 I/O (113) (io), 230 I/O (116) (io), 231 I/O (119) (io), 232 I/O (A12) (122) (io), 233 I/O (A13) (125) (io), 234 I/O (128) (io), 235 I/O (131) (io), 236 I/O (134) (io), 237 I/O (137) (io), 238 I/O (A14) (140) (io), 239 I/O, SGCK1 (A15) (143) (io)
part B pins: 1 GND (power), 6 I/O, TDI (158) (io), 7 I/O, TCK (161) (io), 14 GND (power), 17 I/O, TMS (188) (io), 19 VCC (power), 22 GND * (power), 29 GND (power), 30 VCC (power), 37 GND * (power), 40 VCC (power), 45 GND (power), 58 O (M1) (290) (io), 59 GND (power), 60 I (M0) (293) (in), 61 VCC (power), 62 I (M2) (294) (in), 75 GND (power), 80 VCC (power), 83 GND * (power), 90 VCC (power), 91 GND (power), 98 GND * (power), 101 VCC (power), 106 GND (power), 119 GND (power), 120 DONE (io), 121 VCC (power), 122 ~{PROGRAM} (in), 135 GND (power), 140 VCC (power), 143 GND * (power), 150 VCC (power), 151 GND (power), 158 GND * (power), 161 VCC (power), 166 GND (power), 179 CCLK (io), 180 VCC (power), 181 O, TDO (0) (hiz), 182 GND (power), 195 NC, 196 GND (power), 201 VCC (power), 204 GND * (power), 211 GND (power), 212 VCC (power), 219 GND * (power), 222 VCC (power), 227 GND (power), 240 VCC (power)

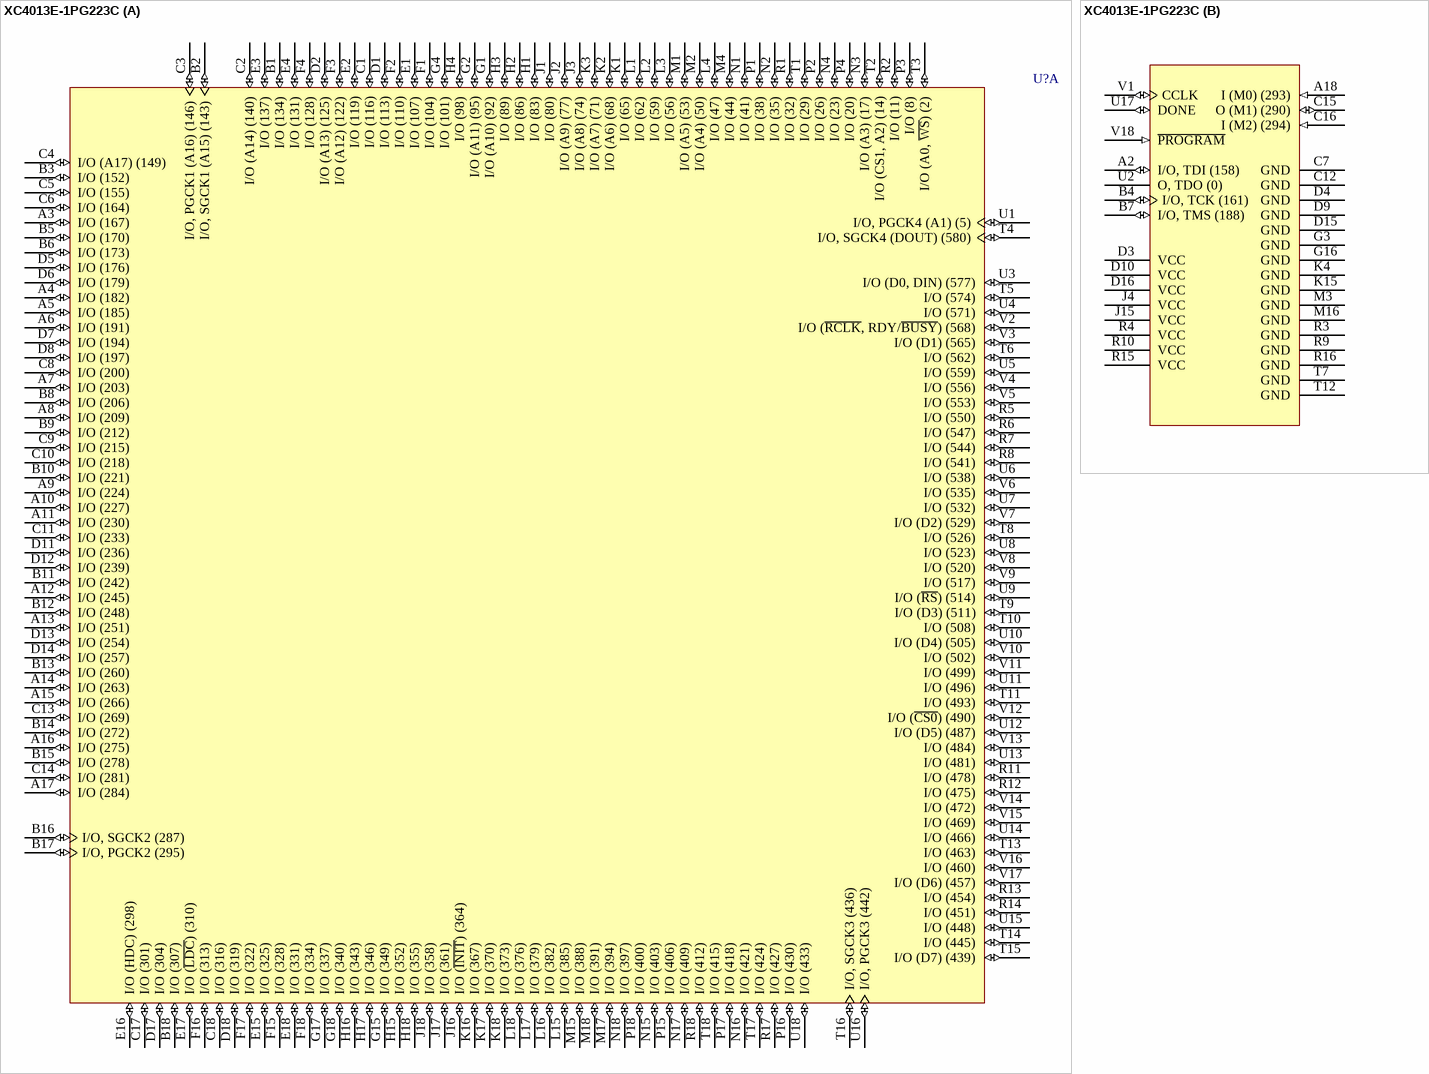
[diagram p156: symbol XC4013E-1PG223C]